# Altium schematic symbol library ST.SchLib: 178 symbols (part 1 of 2)
Pins are listed as number, name and electrical type; pins without a type are passive.

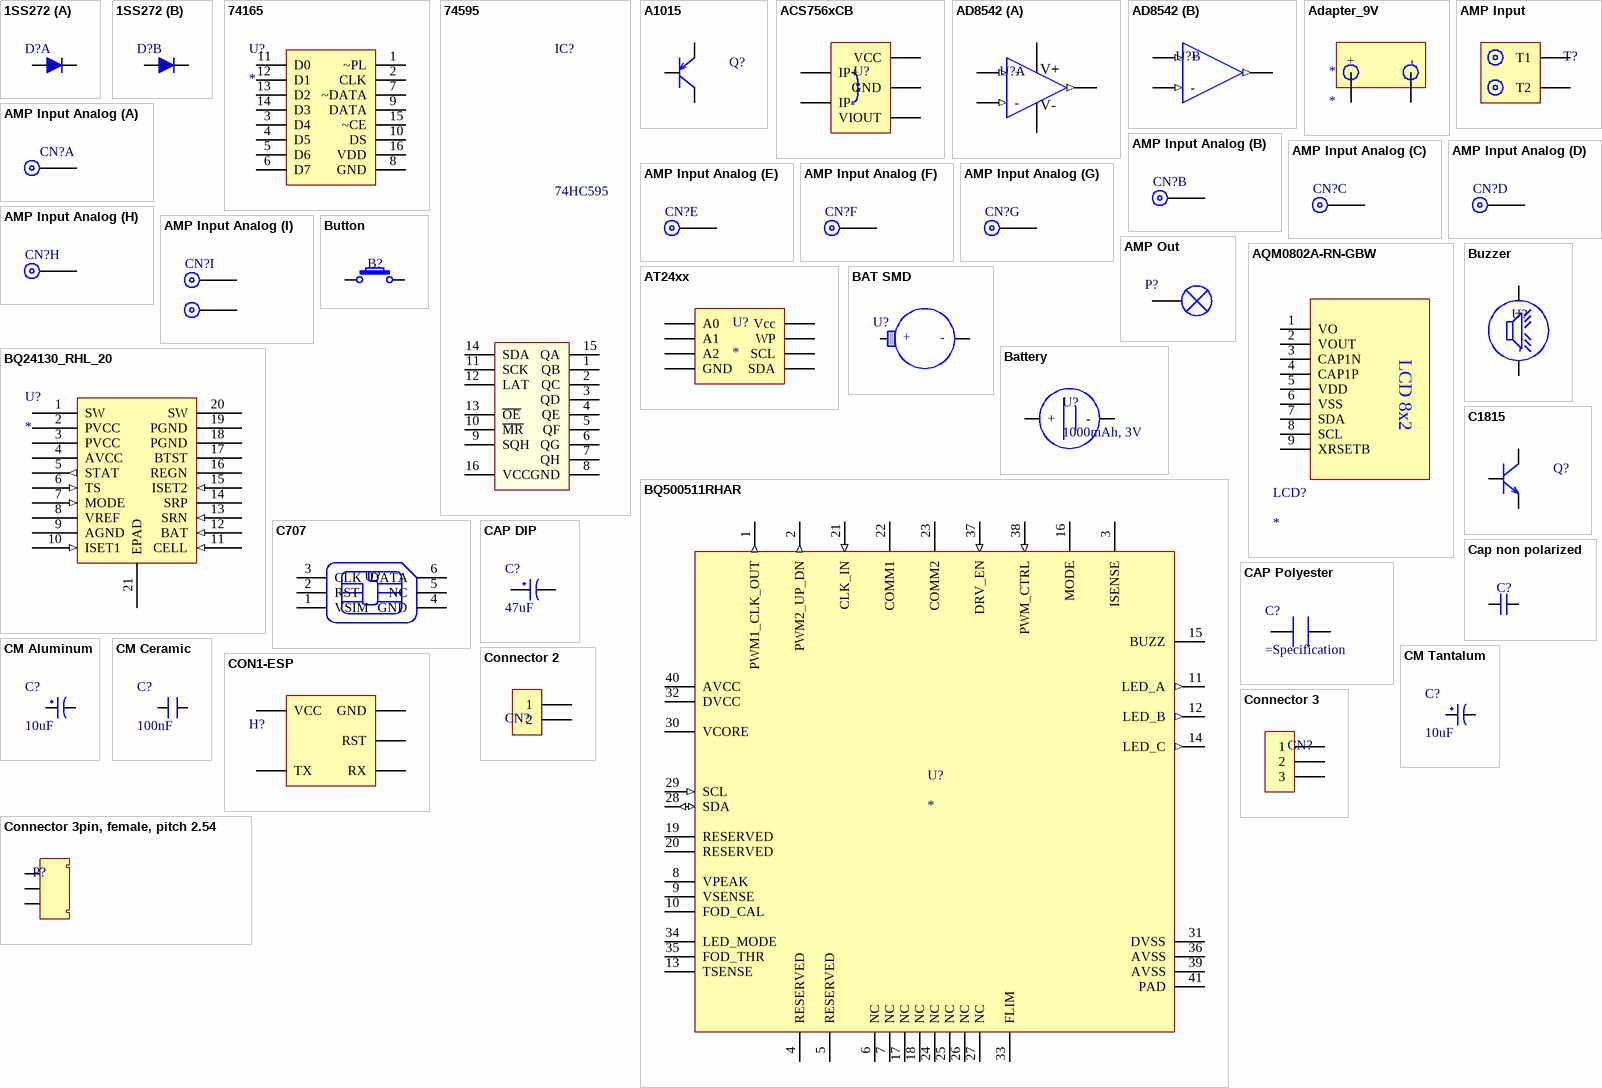
[diagram p0: symbols 1SS272 to Connector 3pin, female, pitch 2.54]

## 1SS272
designator D?  (value not drawn)
Ultra High Speed Switching Application; Manufacturer No: 1SS272; Manufacturer: Toshiba
footprint SOT143 (1SS272)
part A pins: 2, 3
part B pins: 1, 4

## 74165
designator U?
footprint SOIC16 (74HC595D)
pins: 1 ~PL, 2 CLK, 3 D4, 4 D5, 5 D6, 6 D7, 7 ~DATA, 8 GND (power), 9 DATA, 10 DS, 11 D0, 12 D1, 13 D2, 14 D3, 15 ~CE, 16 VDD (power)

## 74595
designator IC?, comment 74HC595
8 Bit Serial input - Parallel Output; Value: 74HC595
footprint SOIC16 (74HC595D)
pins: 1 QB, 2 QC, 3 QD, 4 QE, 5 QF, 6 QG, 7 QH, 8 GND, 9 SQH "OUTPUT", 10 ~{MR} "OUTPUT", 11 SCK "OUTPUT", 12 LAT "OUTPUT", 13 ~{OE} "OUTPUT", 14 SDA "OUTPUT", 15 QA, 16 VCC

## A1015
designator Q?  (value not drawn)
PNP SMD Transistor; Manufacturer No: 2SA1015LT1; Manufacturer: Toshiba; Value: A1015; Specification: A1015
footprint SOT-23 (2N7002KT1G)
pins: 1 B, 2 E, 3 C

## ACS756xCB
designator U?  (value not drawn)
Hall Effect, Open Loop; Manufacturer: Allegro; Specification: Current - Sensing 100A; Manufacturer No: ACS756xCB
footprint ACS756xCB
pins: 1 VCC, 2 GND, 3 VIOUT, 4 IP+, 5 IP-

## AD8542
designator U?  (value not drawn)
CMOS Rail-to-Rail General-Purpose Amplifiers; Manufacturer No: AD8542ARZ; Manufacturer: Analog Devices; Specification: Voltage range 2.7-5.5V, wide bandwidth 1MHz
footprint SOIC8
part A pins: 1 OUT (out), 2 - (in), 3 + (in), 4 V- (power), 8 V+ (power)
part B pins: 5 + (in), 6 - (in), 7 OUT (out)

## Adapter_9V
designator *
footprint Adpater_9V
pins: 1 +, 2 -

## AMP Input
designator T?  (value not drawn)
footprint AMP INPUT
pins: T1, T2

## AMP Input Analog
designator CN?  (value not drawn)
footprint TQFP44_MC
part A pins: 1
part B pins: 2
part C pins: 3
part D pins: 4
part E pins: 5
part F pins: 6
part G pins: 7
part H pins: 8
part I pins: 9, 10

## AMP Out
designator P?  (value not drawn)
footprint AMP OUT
pins: 1

## AQM0802A-RN-GBW
designator LCD?
Manufacturer No: AQM0802A-RN-GBW; Specification: 3V3, I2C inerface
footprint AQM0802A-RN-GBW
pins: 1 VO (power), 2 VOUT (power), 3 CAP1N (power), 4 CAP1P (power), 5 VDD (power), 6 VSS (power), 7 SDA (power), 8 SCL (power), 9 XRSETB (power)
text: LCD 8x2

## AT24xx
designator U?
EEPROM; Manufacturer No: AT24C512C; Manufacturer: Atmel; Specification: I2C-Compatible (2-wire) Serial EEPROM
footprint SOIC8
pins: 1 A0, 2 A1, 3 A2, 4 GND, 5 SDA, 6 SCL, 7 WP, 8 Vcc

## BAT SMD
designator U?  (value not drawn)
Manufacturer No: CR1220-Holder; Manufacturer: China; Specification: Coin, 12.0mm
footprint BAT SMD
pins: 1, 2
text: +; -

## Battery
designator U?, comment 1000mAh, 3V
3V; Manufacturer No: CR-2477/HF1K; Manufacturer: Panasonic; Specification: 1000mAh, 3V
footprint CR2477
pins: 1 +, 2 -

## BQ24130_RHL_20
designator U?
BATTERY CHARGE MANAGEMENT; Manufacturer: Texas Instruments; GENERIC_PART_NUMBER: BQ24130; INDUSTRY_STD_PKG_TYPE: QFN; PIN_COUNT: 20; PACKAGE_DESIGNATOR: RHL; Datasheet URL: http://www.ti.com/lit/gpn/BQ24130; FAMILY_NAME: BATTERY CHARGE MANAGEMENT; RefDes: RefDes; Type: DEV; Value: Value
footprint RHL20_2P05X3P05
pins: 1 SW (power), 2 PVCC (power), 3 PVCC (power), 4 AVCC (power), 5 STAT (out), 6 TS (in), 7 MODE (in), 8 VREF (power), 9 AGND (power), 10 ISET1 (in), 11 CELL (in), 12 BAT (in), 13 SRN (in), 14 SRP, 15 ISET2 (in), 16 REGN (power), 17 BTST (power), 18 PGND (power), 19 PGND (power), 20 SW (power), 21 EPAD

## BQ500511RHAR
designator U?
Imported; PartNumber: BQ500511RHAR; Alternate PartNumber: BQ500511RHAT; Manufacturer: Texas Instruments; CompType: IC; PIN_COUNT: 41; Application_BuildNumber: *; PackageReference: RHA0040A; MountType: SMT; RoHS: Y; RefDes: RefDes; Type: DEV; Value: Value
footprint RHA0040A
pins: 1 PWM1_CLK_OUT (out), 2 PWM2_UP_DN (out), 3 ISENSE, 4 RESERVED, 5 RESERVED, 6 NC, 7 NC, 8 VPEAK, 9 VSENSE, 10 FOD_CAL, 11 LED_A (out), 12 LED_B (out), 13 TSENSE, 14 LED_C (out), 15 BUZZ, 16 MODE, 17 NC, 18 NC, 19 RESERVED, 20 RESERVED, 21 CLK_IN (in), 22 COMM1, 23 COMM2, 24 NC, 25 NC, 26 NC, 27 NC, 28 SDA (io), 29 SCL (in), 30 VCORE, 31 DVSS (power), 32 DVCC (power), 33 FLIM, 34 LED_MODE, 35 FOD_THR, 36 AVSS (power), 37 DRV_EN (in), 38 PWM_CTRL (in), 39 AVSS (power), 40 AVCC (power), 41 PAD (power)

## Button
designator B?  (value not drawn)
Push Button
footprint SMD(2)
footprint Push Button SMD
footprint SW4 (SW button 4pin, 250 x250 mil)
footprint Button Tactile Switch
pins: 1, 2

## Buzzer
designator U?  (value not drawn)
Buzzer; Manufacturer No: SMD_BUZZER_9633; Manufacturer: OEM; Specification: 2-4V, 85dB
footprint Buzzer
footprint Buzzer Big
footprint BUZZER SMD
pins: 1 +, 2 -

## C707
designator U?, comment C707 10M006  (value not drawn)
SIM Card Holder; Manufacturer: Amphenol-Tuchel Electronics; Manufacturer No: C707 10M006; Specification: SIM Card holder
footprint SIM Card C707
pins: 1 VSIM, 2 RST, 3 CLK, 4 GND, 5 NC, 6 DATA

## C1815
designator Q?  (value not drawn)
NPN SMD Transistor; Manufacturer No: 2SC1815-HF; Manufacturer: Toshiba; Value: C1815; Specification: C1815
footprint SOT-23 (2N7002KT1G)
footprint TO-92 2.54 triangle
pins: 1 B, 2 E, 3 C

## CAP DIP
designator C?, comment 47uF
DIP Electrolytic Capacitors; Manufacturer No: 47uF/35V (JWCO); Manufacturer: JWCO; Voltage: 35V; Tolerance: 20%; Capacitance: 47uF; Specification: ="Capacitance"+" "+"Voltage"+" " +"Tolerance"
footprint CAPACITOR 16mm
footprint CAPACITOR 10x17x5
footprint Capacitor 6.3 (Pitch 2.5mm)
footprint Capacitor 5x7x2 (Pitch 2)
footprint Capacitor 4x7x1.5 (1uF -> 10uF/25V)
footprint Capacitor 5x11x2
footprint CAP EC 500-1250x2000
pins: 1, 2

## Cap non polarized
designator C?  (value not drawn)
footprint CAP CERAMIC
footprint CAP Polyester Film
pins: 1, 2

## CAP Polyester
designator C?
DIP Electrolytic Capacitors; Manufacturer No: 1uF/400V; Capacitance: 1uF; Voltage: 400V; Tolerance: 20%; Specification: ="Capacitance"+" "+"Voltage"
footprint CAP 400V POLY
pins: 1, 2

## CM Aluminum
designator C?, comment 10uF
SMD Aluminum Capacitor; Manufacturer No: EEE-HA1C100P; Manufacturer: Panasonic; Voltage: 16V; Tolerance: 20%; Capacitance: 10uF; Specification: ="Capacitance"+" "+"Voltage"+" " +"Tolerance"
footprint CAP AL SIZE B
footprint Capacitor AL Size A
footprint Capacitor AL Size C
footprint CAP AL SIZE D
footprint Capacitor AL Size D8
footprint Capacitor Al Size E
footprint CAP AL SIZE G (Aluminum Electrolytic Capacitor, Body 10.30x10.30x10.50mm)
footprint CAP AL SIZE F
pins: 1, 2

## CM Ceramic
designator C?, comment 100nF
SMD Ceramic  Capacitor; Manufacturer No: C0805KRX7R9BB104; Manufacturer: Yageo; Voltage: 50V; Tolerance: 10%; Capacitance: 100nF; Specification: ="Capacitance"+" "+"Voltage"+" " +"Tolerance"
footprint CM 0805
footprint CM 0603
footprint CM 1206
footprint CM 1210
pins: 1, 2

## CM Tantalum
designator C?, comment 10uF
SMD Tantalum Capacitor; Manufacturer No: TAJE106K035RNJ; Manufacturer: AVX; Voltage: 35V; Tolerance: 10%; Capacitance: 10uF; Specification: ="Capacitance"+" "+"Voltage"+" " +"Tolerance"
footprint CAP TANTALUM 3216
footprint CAP TANTALUM 7343
pins: 1, 2

## CON1-ESP
designator H?  (value not drawn)
footprint CON1-ESP
pins: 1 VCC, 2 GND, 14 RST, 15 TX, 16 RX

## Connector 2
designator CN?, comment SM02B-SRSS-TB  (value not drawn)
Pitch 1mm Side entry type; Manufacturer: JST; Specification: 1.0A, 50V; Manufacturer No: SM02B-SRSS-TB
footprint SM02B-SRSS-TB
pins: 1, 2

## Connector 3
designator CN?, comment SM03B-SRSS-TB  (value not drawn)
Pitch 1mm Side entry type; Manufacturer: JST; Specification: 1.0A, 50V; Manufacturer No: SM03B-SRSS-TB
footprint SM03B-SRSS-TB
pins: 1, 2, 3

## Connector 3pin, female, pitch 2.54
designator P?  (value not drawn)
footprint B3B-XH-A (Pitch 2.54)
pins: 1, 2, 3

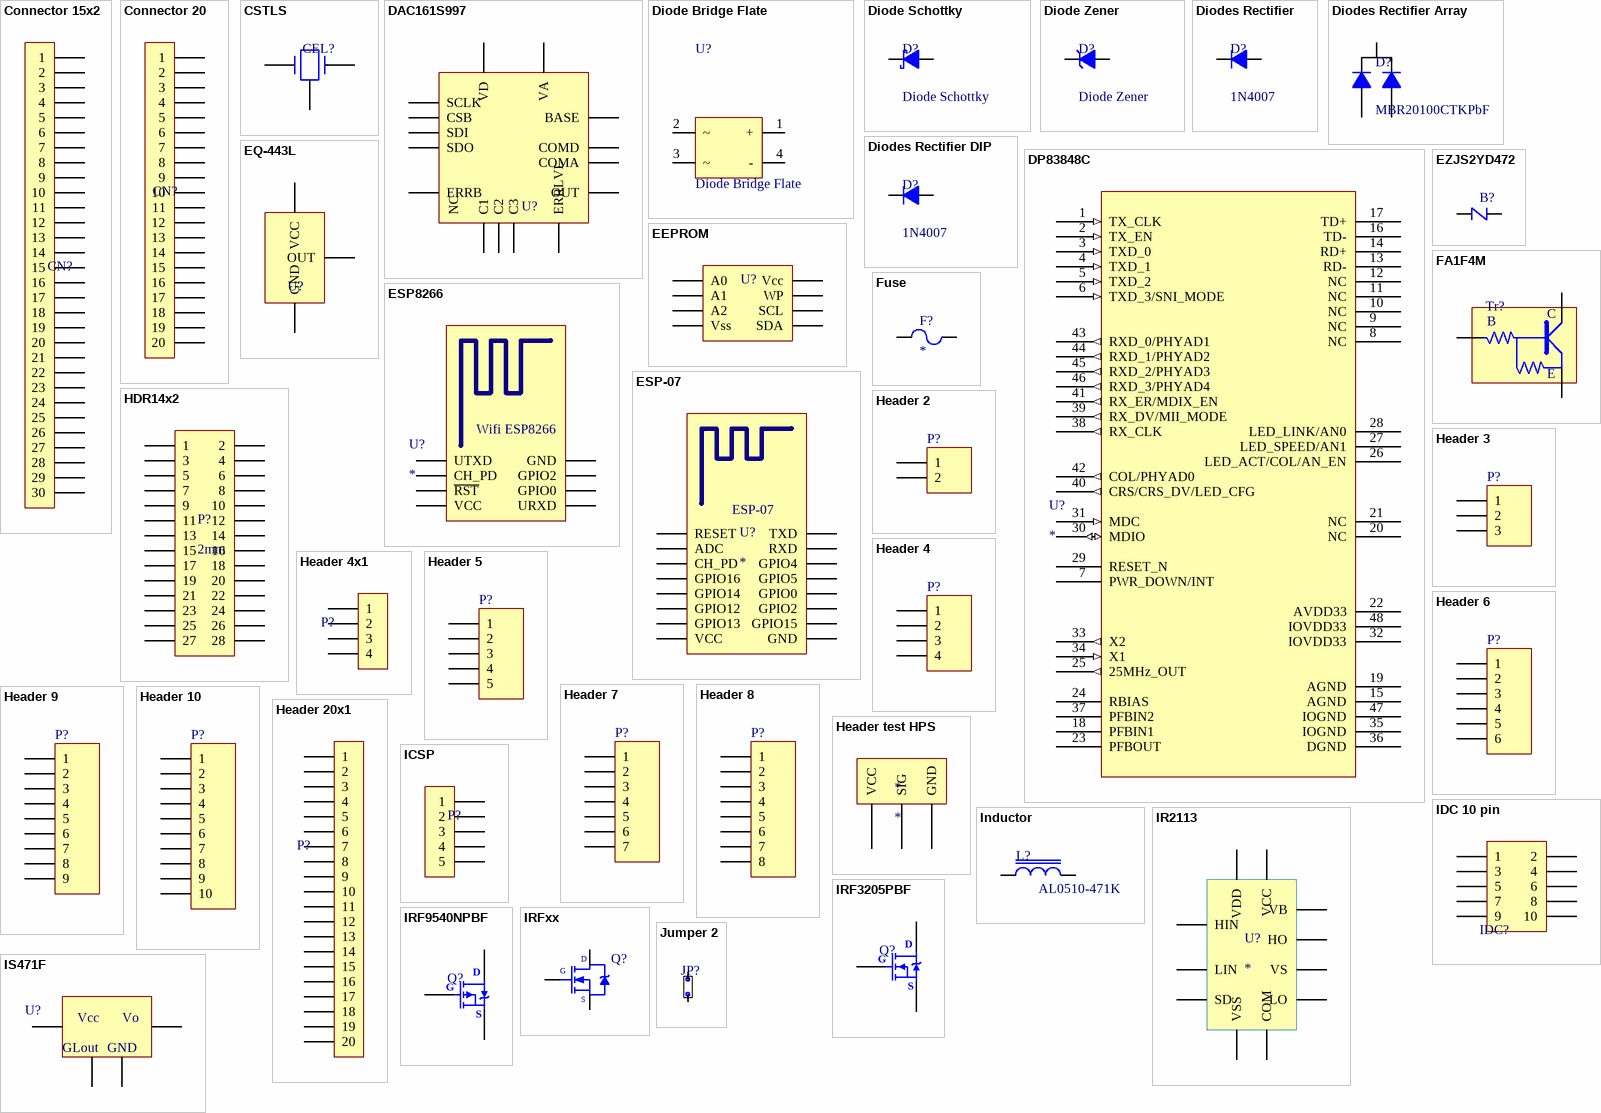
[diagram p1: symbols Connector 15x2 to Jumper 2]

## Connector 15x2
designator CN?, comment 30P9.0-JMCS-G-B-TF  (value not drawn)
Pitch 0.5mm Top entry type; Manufacturer: JST; Specification: 0.5A, 50V; Manufacturer No: 30P9.0-JMCS-G-B-TF
footprint 30P9.0-JMCS-G-B-TF
pins: 1, 2, 3, 4, 5, 6, 7, 8, 9, 10, 11, 12, 13, 14, 15, 16, 17, 18, 19, 20, 21, 22, 23, 24, 25, 26, 27, 28, 29, 30

## Connector 20
designator CN?, comment SM20B-SRSS-TB  (value not drawn)
Pitch 1mm Side entry type; Manufacturer: JST; Specification: 1.0A, 50V; Manufacturer No: SM20B-SRSS-TB
footprint SM20B-SRSS-TB
pins: 1, 2, 3, 4, 5, 6, 7, 8, 9, 10, 11, 12, 13, 14, 15, 16, 17, 18, 19, 20

## CSTLS
designator CEL?  (value not drawn)
Manufacturer No: CSTLS4M00G53-B0; Manufacturer: Mutara; Specification: 4 MHz
footprint CSTLS_G
pins: 1, 2, 3

## DAC161S997
designator U?  (value not drawn)
16-Bit SPI-Programmable DAC for 4-20 mA Loops; Manufacturer: Texas Instruments; Specification: 16-bit DAC, 4-20mA Loops; Manufacturer No: DAC161S997
footprint QFN16
pins: 1 COMA, 2 COMD, 3 VD, 4 SCLK, 5 SDI, 6 CSB, 7 ERRB, 8 SDO, 9 OUT, 10 ERRLVL, 11 NC, 12 C3, 13 C2, 14 C1, 15 VA, 16 BASE

## Diode Bridge Flate
designator U?
Diode Bridge; Manufacturer No: DB107S; Manufacturer: China; Specification: 1A/1000V
footprint Diode bridge SMD (DB107S)
footprint DIODE BRIDGE(FLAT) BIG
pins: 1 +, 2 ~, 3 ~, 4 -

## Diode Schottky
designator D?
Published: 8-Jun-2000; LatestRevisionDate: 17-Jul-2002; LatestRevisionNote: Re-released for DXP Platform.; PackageReference: DIODE-0.7; Publisher: Altium Limited
footprint DO-214AA (SODFL, 2-Leads, Body 3.63x5.34mm)
footprint SOD-123
footprint SOD-523
footprint DO-214AC (SODFL, 2-Leads, Body 2.69x5.03mm, IPC Medium Density)
footprint DO-214AB (Molded Diode, 2-Leads, Body 6.85x5.90mm)
pins: 1 K, 2 A

## Diode Zener
designator D?
Zener Voltage Regulators; Manufacturer No: MMSZ5222BT1G; Manufacturer: ON Semiconductor; Specification: 500 mW SOD−123 Surface Mount
footprint SOD-123
footprint Mini2-F3-B (SODFL, 2-Leads, Body 1.60x3.50mm, IPC Medium Density)
pins: 1 K, 2 A

## Diodes Rectifier
designator D?, comment 1N4007
Rectifier Diodes; Manufacturer: SYC; Specification: RMS Reverse Voltage 700V, Max Current 1A; Manufacturer No: 1N4007
footprint DO-214AC (SODFL, 2-Leads, Body 2.69x5.03mm, IPC Medium Density)
footprint SOD-323 (SODFL, 2-Leads, Body 1.35x2.70mm, IPC Medium Density)
footprint SOD-123
footprint TO-220AB-DIODE (MBR20100)
pins: 1 K, 2 A

## Diodes Rectifier Array
designator D?, comment MBR20100CTKPbF
Rectifier Diodes Array; Manufacturer: IR; Specification: 100V-20A; Manufacturer No: MBR20100CTKPbF
footprint TO-220AB
pins: 1 A, 2 K, 3 A

## Diodes Rectifier DIP
designator D?, comment 1N4007
Rectifier Diodes; Manufacturer: SYC; Specification: RMS Reverse Voltage 700V, Max Current 1A; Manufacturer No: 1N4007
footprint D1AN (Diode 1A, W 100mil, L 150mil)
footprint D1A (Diode 1A, W 100mil, L 350mil)
footprint D2A (Diode 2A, W 150mil, L 450mil)
footprint TO-218 Two Lead
pins: 1 K, 2 A

## DP83848C
designator U?
footprint LQFP 48pin
pins: 1 TX_CLK (in), 2 TX_EN (in), 3 TXD_0 (in), 4 TXD_1 (in), 5 TXD_2 (in), 6 TXD_3/SNI_MODE (in), 7 PWR_DOWN/INT, 8 NC, 9 NC, 10 NC, 11 NC, 12 NC, 13 RD-, 14 RD+, 15 AGND, 16 TD-, 17 TD+, 18 PFBIN1, 19 AGND, 20 NC, 21 NC, 22 AVDD33, 23 PFBOUT, 24 RBIAS, 25 25MHz_OUT (out), 26 LED_ACT/COL/AN_EN, 27 LED_SPEED/AN1, 28 LED_LINK/AN0, 29 RESET_N, 30 MDIO (io), 31 MDC (in), 32 IOVDD33, 33 X2 (out), 34 X1 (in), 35 IOGND, 36 DGND, 37 PFBIN2, 38 RX_CLK (out), 39 RX_DV/MII_MODE (out), 40 CRS/CRS_DV/LED_CFG (out), 41 RX_ER/MDIX_EN (out), 42 COL/PHYAD0 (out), 43 RXD_0/PHYAD1 (out), 44 RXD_1/PHYAD2 (out), 45 RXD_2/PHYAD3 (out), 46 RXD_3/PHYAD4 (out), 47 IOGND, 48 IOVDD33

## EEPROM
designator U?  (value not drawn)
footprint SOIC8
pins: 1 A0, 2 A1, 3 A2, 4 Vss, 5 SDA, 6 SCL, 7 WP, 8 Vcc

## EQ-443L
designator U?, comment EQ-433L  (value not drawn)
Hybrid Linear Hall Effect Ics; Manufacturer: AKM; Specification: Voltage range 3-5.5; Manufacturer No: EQ-433L
footprint SOT23127P600-8N
pins: 1 VCC, 2 GND, 3 OUT

## ESP8266
designator U?
footprint 7SEGQ-N (DIP 12 Leads; Body 32x 15 mm; Pitch 0.5 mm)
footprint ESP8266
pins: 1 UTXD, 2 CH_PD, 3 ~{RST}, 4 VCC, 5 URXD, 6 GPIO0, 7 GPIO2, 8 GND
text: Wifi ESP8266

## ESP-07
designator U?
footprint ESP-07
footprint ESP-07 V2
pins: 1 RESET, 2 ADC, 3 CH_PD, 4 GPIO16, 5 GPIO14, 6 GPIO12, 7 GPIO13, 8 VCC, 9 GND, 10 GPIO15, 11 GPIO2, 12 GPIO0, 13 GPIO5, 14 GPIO4, 15 RXD, 16 TXD

## EZJS2YD472
designator B?  (value not drawn)
Multilayer Varistor for ESD pulse; Manufacturer No: EZJS2YD472; Manufacturer: Panasonic; Specification: Max. Allowable Voltage 30V
pins: 1, 2

## FA1F4M
designator Tr?
FA1F4M; Value: R1/4W - 1K
footprint FA1F4M
pins: 1 E, 2 B, 3 C

## Fuse
designator F?
Vendor: *
footprint SMD-2812 (PTC Resettable Fuses)
pins: 1, 2

## HDR14x2
designator P?, comment 2mm
Female Pin Header, Double row; Manufacturer No: 2mm-40x2-FH; Pitch: 2mm
footprint HDR14x2 (Pitch 2mm Double row)
pins: 1, 2, 3, 4, 5, 6, 7, 8, 9, 10, 11, 12, 13, 14, 15, 16, 17, 18, 19, 20, 21, 22, 23, 24, 25, 26, 27, 28

## Header 2
designator P?
Header, 2-Pin; LatestRevisionDate: 17-Jul-2002; LatestRevisionNote: Re-released for DXP Platform.; Publisher: Altium Limited
footprint HDR1X2 (Connector; Header; 2 Position)
pins: 1, 2

## Header 3
designator P?
Header, 3-Pin; LatestRevisionDate: 17-Jul-2002; LatestRevisionNote: Re-released for DXP Platform.; Publisher: Altium Limited
footprint HDR1X3 (Connector; Header; 3 Position)
pins: 1, 2, 3

## Header 4
designator P?
Header, 4-Pin; LatestRevisionDate: 17-Jul-2002; LatestRevisionNote: Re-released for DXP Platform.; Publisher: Altium Limited
footprint HDR1X4 (Connector; Header; 4 Position)
pins: 1, 2, 3, 4

## Header 4x1
designator P?  (value not drawn)
footprint HDR 4x1 2mm (2mm)
pins: 1, 2, 3, 4

## Header 5
designator P?
Header, 5-Pin; LatestRevisionDate: 17-Jul-2002; LatestRevisionNote: Re-released for DXP Platform.; Publisher: Altium Limited
footprint HDR1X5 (Connector; Header; 5 Position)
pins: 1, 2, 3, 4, 5

## Header 6
designator P?
Header, 6-Pin; LatestRevisionDate: 17-Jul-2002; LatestRevisionNote: Re-released for DXP Platform.; Publisher: Altium Limited
footprint HDR1X6 (Connector; Header; 6 Position)
pins: 1, 2, 3, 4, 5, 6

## Header 7
designator P?
Header, 7-Pin; LatestRevisionDate: 17-Jul-2002; LatestRevisionNote: Re-released for DXP Platform.; Publisher: Altium Limited
footprint HDR1X7 (Connector; Header; 7 Position)
pins: 1, 2, 3, 4, 5, 6, 7

## Header 8
designator P?
Header, 8-Pin; LatestRevisionDate: 17-Jul-2002; LatestRevisionNote: Re-released for DXP Platform.; Publisher: Altium Limited
footprint HDR1X8 (Connector; Header; 8 Position)
pins: 1, 2, 3, 4, 5, 6, 7, 8

## Header 9
designator P?
Header, 9-Pin; LatestRevisionDate: 17-Jul-2002; LatestRevisionNote: Re-released for DXP Platform.; Publisher: Altium Limited
footprint HDR1X9 (Connector; Header; 9 Position)
pins: 1, 2, 3, 4, 5, 6, 7, 8, 9

## Header 10
designator P?
Header, 10-Pin; LatestRevisionDate: 17-Jul-2002; LatestRevisionNote: Re-released for DXP Platform.; Publisher: Altium Limited
footprint HDR1X10 (Connector; Header; 10 Position)
pins: 1, 2, 3, 4, 5, 6, 7, 8, 9, 10

## Header 20x1
designator P?  (value not drawn)
footprint HDR 20x1 2mm
pins: 1, 2, 3, 4, 5, 6, 7, 8, 9, 10, 11, 12, 13, 14, 15, 16, 17, 18, 19, 20

## Header test HPS
designator *
footprint Header HPS test
pins: 1 NC hidden, 2 VCC, 3 SIG, 4 GND, 5 NC hidden

## ICSP
designator P?  (value not drawn)
Pitch 1.27
footprint ICSP 1.27mm
pins: 1, 2, 3, 4, 5

## IDC 10 pin
designator IDC?  (value not drawn)
footprint IDC 10pin Pitch 2.54
footprint IDC 10pin Pitch 2.54 Angle
pins: 1 (power), 2 (power), 3 (power), 4 (power), 5 (power), 6 (power), 7 (power), 8 (power), 9 (power), 10 (power)

## Inductor
designator L?, comment AL0510-471K
Power; Manufacturer: DEKE; Specification: 470uH, 280mA; Manufacturer No: AL0510-471K
footprint Axial 0.5
pins: 1, 2

## IR2113
designator U?
HIGH AND LOW SIDE DRIVER; Manufacturer No: IR2113S; Manufacturer: IR; Specification: Vout 10-20V
footprint SOIC16-W (SOIC, 16-Leads, Body 10.30x7.50mm, Pitch 1.27mm, IPC Medium Density)
pins: 1 LO, 2 COM, 3 VCC, 4 hidden, 5 hidden, 6 VS, 7 VB, 8 HO, 9 hidden, 10 hidden, 11 VDD, 12 HIN, 13 SD, 14 LIN, 15 VSS, 16 hidden

## IRF3205PBF
designator Q?  (value not drawn)
N-Channel MOSFET; Manufacturer: IR; Specification: 55V/2110A; Manufacturer No: IRF3205PBF
footprint TO-220AB
pins: 1 G, 2 D, 3 S

## IRF9540NPBF
designator Q?, comment IRF4435  (value not drawn)
P-Channel MOSFET; Manufacturer: IRF9540NPBF; Specification: 100V/23A; Manufacturer No: IRF4435
footprint TO-220AB
pins: 1 G, 2 D, 3 S

## IRFxx
designator Q?  (value not drawn)
MOSFET N
footprint IRF7832PbF (Only used for IRF7832)
pins: 1 G, 2 D, 3 S

## IS471F
designator U?  (value not drawn)
footprint IS471F
pins: 1 Vcc, 2 Vo, 3 GND, 4 GLout

## Jumper 2
designator JP?  (value not drawn)
2.54mm 2-Pin Shorting Jumper; Manufacturer No: JUMPER-2; Manufacturer: Taiwan; Specification: Pitch 2.54mm
footprint Jumper
pins: 1, 2

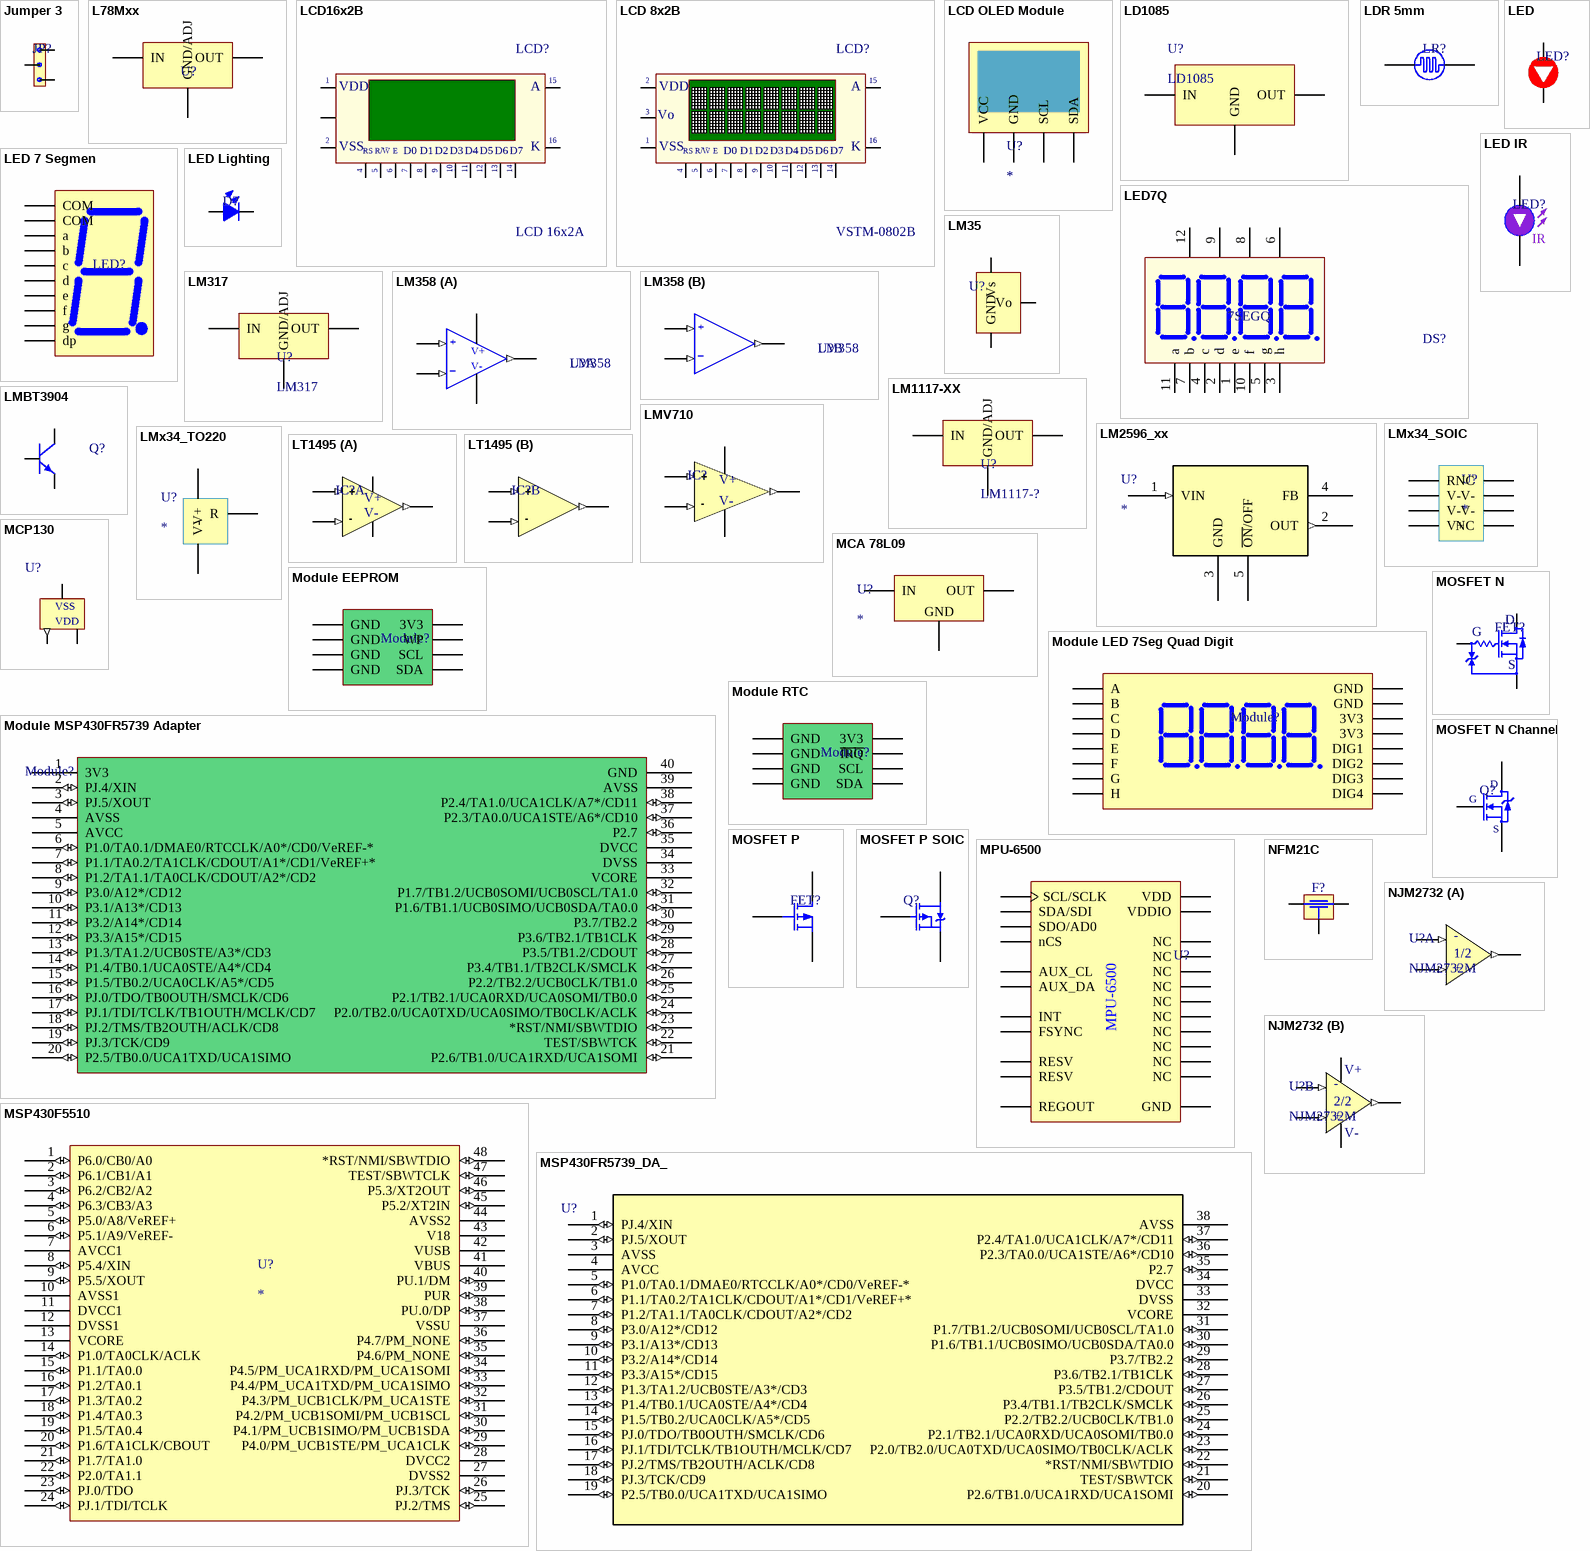
[diagram p2: symbols Jumper 3 to NJM2732]

## Jumper 3
designator JP?  (value not drawn)
footprint Jumper
pins: 1, 2, 3

## L78Mxx
designator U?  (value not drawn)
Manufacturer No: L78M05CDT-TR; Manufacturer: ST; Specification: Out 5V, 500mA
footprint DPAK
pins: 1 IN (power), 2 GND/ADJ (power), 3 OUT (power)

## LCD16x2B
designator LCD?, comment LCD 16x2A
LCD dipslay 16 char, 2 line; Manufacturer: SC1602BBWB; Value: LCD16x2A
footprint SC1602BBWB (LCD 16x2)
pins: 1 VDD, 2 VSS, 3 Vo, 4 RS, 5 R/~{W}, 6 ~{EN}, 7 D0, 8 D1, 9 D2, 10 D3, 11 D4, 12 D5, 13 D6, 14 D7, 15 A, 16 K
text: |; R/W; E

## LCD 8x2B
designator LCD?, comment VSTM-0802B
LCD dipslay 8 char, 2 line; Manufacturer: Vs-Top Electronics; Specification: LCD display 8 char, 2 line; Manufacturer No: VSTM-0802B
pins: 1 VSS, 2 VDD, 3 Vo, 4 RS, 5 R/~{W}, 6 ~{EN}, 7 D0, 8 D1, 9 D2, 10 D3, 11 D4, 12 D5, 13 D6, 14 D7, 15 A, 16 K
text: |; R/W; E

## LCD OLED Module
designator U?
Manufacturer No: LCD OLED 1.3; Manufacturer: China; Specification: I2C, 3V3 - 5V, 128x64
footprint LCD OLED 1.3
pins: 1 VCC, 2 GND, 3 SCL, 4 SDA

## LD1085
designator U?
footprint D2PAK
pins: 1 GND, 2 OUT, 3 IN

## LDR 5mm
designator LR?  (value not drawn)
footprint LDR
pins: 1, 2

## LED
designator LED?
LED; Manufacturer No: HT204SURD; Manufacturer: Harvatek; Color: RED; Wavelength: 630nm; Brightness: 30-200 mcd; Size: 3mm; Specification: ="Color"+" " +"Wavelength"+" "+"Brightness"
footprint LED 3MM (LED 2 PIN, 3ly Only colour)
footprint LED-5mm RED (LED 2 PIN, 5 ly , Only colour, pin to pin 110mil)
footprint LED 0603
footprint LED 0805
footprint LED 1206
pins: 1, 2

## LED7Q
designator DS?, comment 7SEGQ
Four 7 Seg Dipslay; Value: LED 7Q SEG
footprint 7SEG 4DIG MODULE
pins: 1 e, 2 d, 3 h, 4 c, 5 g, 6 V4, 7 b, 8 V3, 9 V2, 10 f, 11 a, 12 V1

## LED 7 Segmen
designator LED?  (value not drawn)
LED 7 Segmen; Manufacturer: Kingbright; Manufacturer No: ACSA03-41SRWA-F01; Specification: Red, 0.3 inch digit height
footprint LED7SEG SMD
pins: 1 e, 2 d, 3 COM, 4 c, 5 dp, 6 b, 7 a, 8 COM, 9 f, 10 g

## LED IR
designator LED?  (value not drawn)
LED - Infrared 940nm; Manufacturer: Vishay Semiconductors; Manufacturer No: TSAL6200; Specification: IR LED, 940nm, If=100mA
footprint LED-5mm RED-IR (LED 2 PIN, 5 ly , Only colour, pin to pin 110mil)
pins: 1 A, 2 K
text: IR

## LED Lighting
designator D?
LED Lighting
footprint LED 3MM (LED 2 PIN, 3ly Only colour)
pins: 1 A, 2 K

## LM35
designator U?  (value not drawn)
Manufacturer No: LM35CAZ; Manufacturer: Texas Instruments; Specification: Power supply 4-30V, 10mV/*C
footprint TO-92 2.54 triangle LM35
pins: 1 Vs, 2 Vo, 3 GND

## LM317
designator U?
Terminal Adjustable Regulator; Manufacturer: Texas Instruments; Specification: 1.5A Adjustable Positive Voltage Regulator; Manufacturer No: LM317
footprint TO-220AB
pins: 1 GND/ADJ (power), 2 OUT (power), 3 IN (power)

## LM358
designator U?
Low-Power Dual Operational Amplifier; Manufacturer: TI; Specification: Dual Operational Amplifiers; Manufacturer No: LM358
footprint SOIC8
part A pins: 1 OUT (out), 2 IN- (in), 3 IN+ (in), 4 -V, 8 +V
part B pins: 5 IN+ (in), 6 IN- (in), 7 OUT (out)
part A text: +; V+; _; V-
part B text: +; _

## LM1117-XX
designator U?, comment LM1117-?
800mA Low-Dropout Linear Regulator; Manufacturer: Texas Instruments; Manufacturer No: LM1117IMP-3.3/NOPB; Specification: Vin 15Vmax, Iout 800mA; Datasheet: http://www.ti.com/product/LM1117-N/description
footprint SOT-223 (SOT223, 4-Leads, Body 6.50x7.00mm (avg), Pitch 2.30mm, IPC Medium Density)
footprint DPAK
pins: 1 GND/ADJ (power), 2 OUT (power), 3 IN (power)

## LM2596_xx
designator U?
Imported; PartNumber: LM2596S-12; base_pn: LM259X; CompType: Switcher; Symbol: NameLM2596S-12; Vendor: NationalSemiconductor; Type: DEV; Version: 05/02/2007; RefDes: RefDes; Value: Value
footprint DPAK170P1524X483-6N (D2-PAK, 6-Pads, Body 7.93x8.69mm (max), IPC Medium Density)
pins: 1 VIN (in), 2 OUT (out), 3 GND, 4 FB, 5 ~{ON}/OFF, 6 TAB hidden to GND

## LMBT3904
designator Q?, comment C1815  (value not drawn)
NPN SMD Transistor; Manufacturer No: LMBT3904LT1G; Manufacturer: LRC; Specification: Ic = 200mA; Value: C1815
footprint SOT-23 (2N7002KT1G)
pins: 1 B, 2 E, 3 C

## LMV710
designator IC?, comment LMV710M5/NOPB  (value not drawn)
Manufacturer: Texas Instruments; Specification: Low Power, RRIO Operational Amplifiers; Manufacturer No: LMV710M5/NOPB
footprint SOT23 5 Lead (SOT23, 5-Leads, Body 2.90x2.80mm, Pitch 0.95mm, IPC Medium Density)
pins: 1 (out), 2 V- (power), 3 + (in), 4 - (in), 5 V+ (power)

## LMx34_SOIC
designator U?
Adjustable Current Sources; Manufactuer No: LM334; Manufacturer: Texas Instrument
footprint SOIC8
pins: 1 R, 2 V-, 3 V-, 4 V+, 5 NC, 6 V-, 7 V-, 8 NC

## LMx34_TO220
designator U?
Adjustable Current Sources; Manufactuer No: LM334; Manufacturer: Texas Instrument
footprint TO-92 2.54 triangle
pins: 1 V-, 2 V+, 3 R

## LT1495
designator IC?, comment LT1495IS8  (value not drawn)
Low Power, RRIO Operational Amplifiers, Dual opamp; Manufacturer: Linear Technology; Manufacturer No: LT1495IS8; Specification: Low Power, RRIO Operational Amplifiers, Dual opamp
footprint SOIC8
part A pins: 1 (out), 2 - (in), 3 + (in), 4 V- (power), 8 V+ (power)
part B pins: 5 + (in), 6 - (in), 7 (out)

## MCA 78L09
designator U?
pins: 1 OUT, 2 GND, 3 IN

## MCP130
designator U?  (value not drawn)
footprint MCP130 SOT23 (SOT23, 3-Leads, Body 2.90x2.45mm, Pitch 0.95mm, IPC Medium Density)
pins: 1 VSS, 2 RST (out), 3 VDD

## Module EEPROM
designator Module?  (value not drawn)
footprint MODULE EEPROM
pins: 1 GND, 2 GND, 3 GND, 4 GND, 5 SDA, 6 SCL, 7 WP, 8 3V3

## Module LED 7Seg Quad Digit
designator Module?  (value not drawn)
footprint 7SEG 4DIG MODULE
pins: 1 A, 2 B, 3 C, 4 D, 5 E, 6 F, 6 3V3, 7 G, 7 3V3, 8 H, 8 GND, 9 DIG4, 9 GND, 10 DIG3, 11 DIG2, 12 DIG1

## Module MSP430FR5739 Adapter
designator Module?  (value not drawn)
footprint MODULE MSP430FR5739
pins: 1 3V3 (power), 2 PJ.4/XIN (io), 3 PJ.5/XOUT (io), 4 AVSS (power), 5 AVCC (power), 6 P1.0/TA0.1/DMAE0/RTCCLK/A0*/CD0/VeREF-* (io), 7 P1.1/TA0.2/TA1CLK/CDOUT/A1*/CD1/VeREF+* (io), 8 P1.2/TA1.1/TA0CLK/CDOUT/A2*/CD2 (io), 9 P3.0/A12*/CD12 (io), 10 P3.1/A13*/CD13 (io), 11 P3.2/A14*/CD14 (io), 12 P3.3/A15*/CD15 (io), 13 P1.3/TA1.2/UCB0STE/A3*/CD3 (io), 14 P1.4/TB0.1/UCA0STE/A4*/CD4 (io), 15 P1.5/TB0.2/UCA0CLK/A5*/CD5 (io), 16 PJ.0/TDO/TB0OUTH/SMCLK/CD6 (io), 17 PJ.1/TDI/TCLK/TB1OUTH/MCLK/CD7 (io), 18 PJ.2/TMS/TB2OUTH/ACLK/CD8 (io), 19 PJ.3/TCK/CD9 (io), 20 P2.5/TB0.0/UCA1TXD/UCA1SIMO (io), 21 P2.6/TB1.0/UCA1RXD/UCA1SOMI (io), 22 TEST/SBWTCK (io), 23 *RST/NMI/SBWTDIO (io), 24 P2.0/TB2.0/UCA0TXD/UCA0SIMO/TB0CLK/ACLK (io), 25 P2.1/TB2.1/UCA0RXD/UCA0SOMI/TB0.0 (io), 26 P2.2/TB2.2/UCB0CLK/TB1.0 (io), 27 P3.4/TB1.1/TB2CLK/SMCLK (io), 28 P3.5/TB1.2/CDOUT (io), 29 P3.6/TB2.1/TB1CLK (io), 30 P3.7/TB2.2 (io), 31 P1.6/TB1.1/UCB0SIMO/UCB0SDA/TA0.0 (io), 32 P1.7/TB1.2/UCB0SOMI/UCB0SCL/TA1.0 (io), 33 VCORE (power), 34 DVSS (power), 35 DVCC (power), 36 P2.7 (io), 37 P2.3/TA0.0/UCA1STE/A6*/CD10 (io), 38 P2.4/TA1.0/UCA1CLK/A7*/CD11 (io), 39 AVSS (power), 40 GND (power)

## Module RTC
designator Module?  (value not drawn)
footprint MODULE RTC
pins: 1 GND, 2 GND, 3 GND, 4 GND, 5 SDA, 6 SCL, 7 ~{IRQ}, 8 3V3

## MOSFET N
designator FET?, comment 2SK2009  (value not drawn)
Manufacturer: Toshiba; Specification: N-Channel MOSFET; Manufacturer No: 2SK2009
footprint SOT-23 (2N7002KT1G)
pins: 1 G, 2 S, 3 D

## MOSFET N Channel
designator Q?, comment IRF3205  (value not drawn)
Manufacturer: IRF; Specification: N-Channel MOSFET; Manufacturer No: IRF3205
footprint TO-220AB
pins: 1 G, 2 D, 3 S

## MOSFET P
designator FET?  (value not drawn)
Manufacturer: IRF; Manufacturer No: IRLML6402; Specification: P-Channel MOSFET
footprint SOT-23 (2N7002KT1G)
pins: 1 G, 2 S, 3 D

## MOSFET P SOIC
designator Q?, comment IRF4435  (value not drawn)
P-Channel MOSFET; Manufacturer: IRF; Specification: 30V/8A; Manufacturer No: IRF4435
footprint SOIC MOSFET (Only used for Mosfet)
pins: 1 G, 2 D, 3 S

## MPU-6500
designator U?  (value not drawn)
Accelerometer, Gyroscope; Manufacturer: InvenSense; Specification: 6-Axis Gyro+Accel; Manufacturer No: MPU-6500
footprint QFN24
pins: 1 NC (power), 2 NC (power), 3 NC (power), 4 NC (power), 5 NC (power), 6 NC (power), 7 AUX_CL (power), 8 VDDIO (power), 9 SDO/AD0 (power), 10 REGOUT (power), 11 FSYNC (power), 12 INT (power), 13 VDD (power), 14 NC (power), 15 NC (power), 16 NC (power), 17 NC (power), 18 GND (power), 19 RESV (power), 20 RESV (power), 21 AUX_DA (power), 22 nCS (power), 23 SCL/SCLK, 24 SDA/SDI (power)

## MSP430F5510
designator U?
Imported; Manufacturer_Part_Number: msp430f5510_pt_48; GENERIC_PART_NUMBER: MSP430F5510; Vendor: Texas Instruments; PACKAGE_DESIGNATOR: PT; PIN_COUNT: 48; FAMILY_NAME: 5 Series; INDUSTRY_STD_PKG_TYPE: LQFP; Datasheet URL: http://www.ti.com/lit/gpn/MSP430F5510; Manufacturer: Texas Instruments; RefDes: RefDes; Type: DEV; Value: Value
footprint LQFP 48pin
pins: 1 P6.0/CB0/A0 (io), 2 P6.1/CB1/A1 (io), 3 P6.2/CB2/A2 (io), 4 P6.3/CB3/A3 (io), 5 P5.0/A8/VeREF+ (io), 6 P5.1/A9/VeREF- (io), 7 AVCC1 (power), 8 P5.4/XIN (io), 9 P5.5/XOUT (io), 10 AVSS1 (power), 11 DVCC1 (power), 12 DVSS1 (power), 13 VCORE (power), 14 P1.0/TA0CLK/ACLK (io), 15 P1.1/TA0.0 (io), 16 P1.2/TA0.1 (io), 17 P1.3/TA0.2 (io), 18 P1.4/TA0.3 (io), 19 P1.5/TA0.4 (io), 20 P1.6/TA1CLK/CBOUT (io), 21 P1.7/TA1.0 (io), 22 P2.0/TA1.1 (io), 23 PJ.0/TDO (io), 24 PJ.1/TDI/TCLK (io), 25 PJ.2/TMS (io), 26 PJ.3/TCK (io), 27 DVSS2 (power), 28 DVCC2 (power), 29 P4.0/PM_UCB1STE/PM_UCA1CLK (io), 30 P4.1/PM_UCB1SIMO/PM_UCB1SDA (io), 31 P4.2/PM_UCB1SOMI/PM_UCB1SCL (io), 32 P4.3/PM_UCB1CLK/PM_UCA1STE (io), 33 P4.4/PM_UCA1TXD/PM_UCA1SIMO (io), 34 P4.5/PM_UCA1RXD/PM_UCA1SOMI (io), 35 P4.6/PM_NONE (io), 36 P4.7/PM_NONE (io), 37 VSSU (power), 38 PU.0/DP (io), 39 PUR (io), 40 PU.1/DM (io), 41 VBUS (power), 42 VUSB (power), 43 V18 (power), 44 AVSS2 (power), 45 P5.2/XT2IN (io), 46 P5.3/XT2OUT (io), 47 TEST/SBWTCLK (io), 48 *RST/NMI/SBWTDIO (io)

## MSP430FR5739_DA_
designator U?  (value not drawn)
Manufacturer: Texas Instruments; Manufacturer No: msp430fr5739_da_38; GENERIC_PART_NUMBER: MSP430FR5739; PACKAGE_DESIGNATOR: DA; PIN_COUNT: 38; FAMILY_NAME: FRAM Series; INDUSTRY_STD_PKG_TYPE: TSSOP; Specification: http://www.ti.com/lit/gpn/MSP430FR5739; RefDes: RefDes; Type: DEV; Value: Value
footprint TSSOP38 (MSP430FR5739)
pins: 1 PJ.4/XIN (io), 2 PJ.5/XOUT (io), 3 AVSS (power), 4 AVCC (power), 5 P1.0/TA0.1/DMAE0/RTCCLK/A0*/CD0/VeREF-* (io), 6 P1.1/TA0.2/TA1CLK/CDOUT/A1*/CD1/VeREF+* (io), 7 P1.2/TA1.1/TA0CLK/CDOUT/A2*/CD2 (io), 8 P3.0/A12*/CD12 (io), 9 P3.1/A13*/CD13 (io), 10 P3.2/A14*/CD14 (io), 11 P3.3/A15*/CD15 (io), 12 P1.3/TA1.2/UCB0STE/A3*/CD3 (io), 13 P1.4/TB0.1/UCA0STE/A4*/CD4 (io), 14 P1.5/TB0.2/UCA0CLK/A5*/CD5 (io), 15 PJ.0/TDO/TB0OUTH/SMCLK/CD6 (io), 16 PJ.1/TDI/TCLK/TB1OUTH/MCLK/CD7 (io), 17 PJ.2/TMS/TB2OUTH/ACLK/CD8 (io), 18 PJ.3/TCK/CD9 (io), 19 P2.5/TB0.0/UCA1TXD/UCA1SIMO (io), 20 P2.6/TB1.0/UCA1RXD/UCA1SOMI (io), 21 TEST/SBWTCK (io), 22 *RST/NMI/SBWTDIO (io), 23 P2.0/TB2.0/UCA0TXD/UCA0SIMO/TB0CLK/ACLK (io), 24 P2.1/TB2.1/UCA0RXD/UCA0SOMI/TB0.0 (io), 25 P2.2/TB2.2/UCB0CLK/TB1.0 (io), 26 P3.4/TB1.1/TB2CLK/SMCLK (io), 27 P3.5/TB1.2/CDOUT (io), 28 P3.6/TB2.1/TB1CLK (io), 29 P3.7/TB2.2 (io), 30 P1.6/TB1.1/UCB0SIMO/UCB0SDA/TA0.0 (io), 31 P1.7/TB1.2/UCB0SOMI/UCB0SCL/TA1.0 (io), 32 VCORE (power), 33 DVSS (power), 34 DVCC (power), 35 P2.7 (io), 36 P2.3/TA0.0/UCA1STE/A6*/CD10 (io), 37 P2.4/TA1.0/UCA1CLK/A7*/CD11 (io), 38 AVSS (power)

## NFM21C
designator F?  (value not drawn)
EMI Suppression Filters; Manufacturer No: NFM21CC223R1H3D; Manufacturer: Murata; Specification: 50VDC, 2000mA
footprint NFM21
pins: 1 IN, 2 GND, 3 OUT

## NJM2732
designator U?, comment NJM2732M
Rail-to-Rail Input/Output Dual Operational Amplifier; Manufacturer: JRC; Manufacturer No: NJM2732M; Specification: Rail-to-Rail Input/Output Dual Operational Amplifier
footprint SOP8
part A pins: 1 (out), 2 (in), 3 (in)
part B pins: 4 V- (power), 5 (in), 6 (in), 7 (out), 8 V+ (power)
part A text: -; 1/2; +
part B text: -; 2/2; +

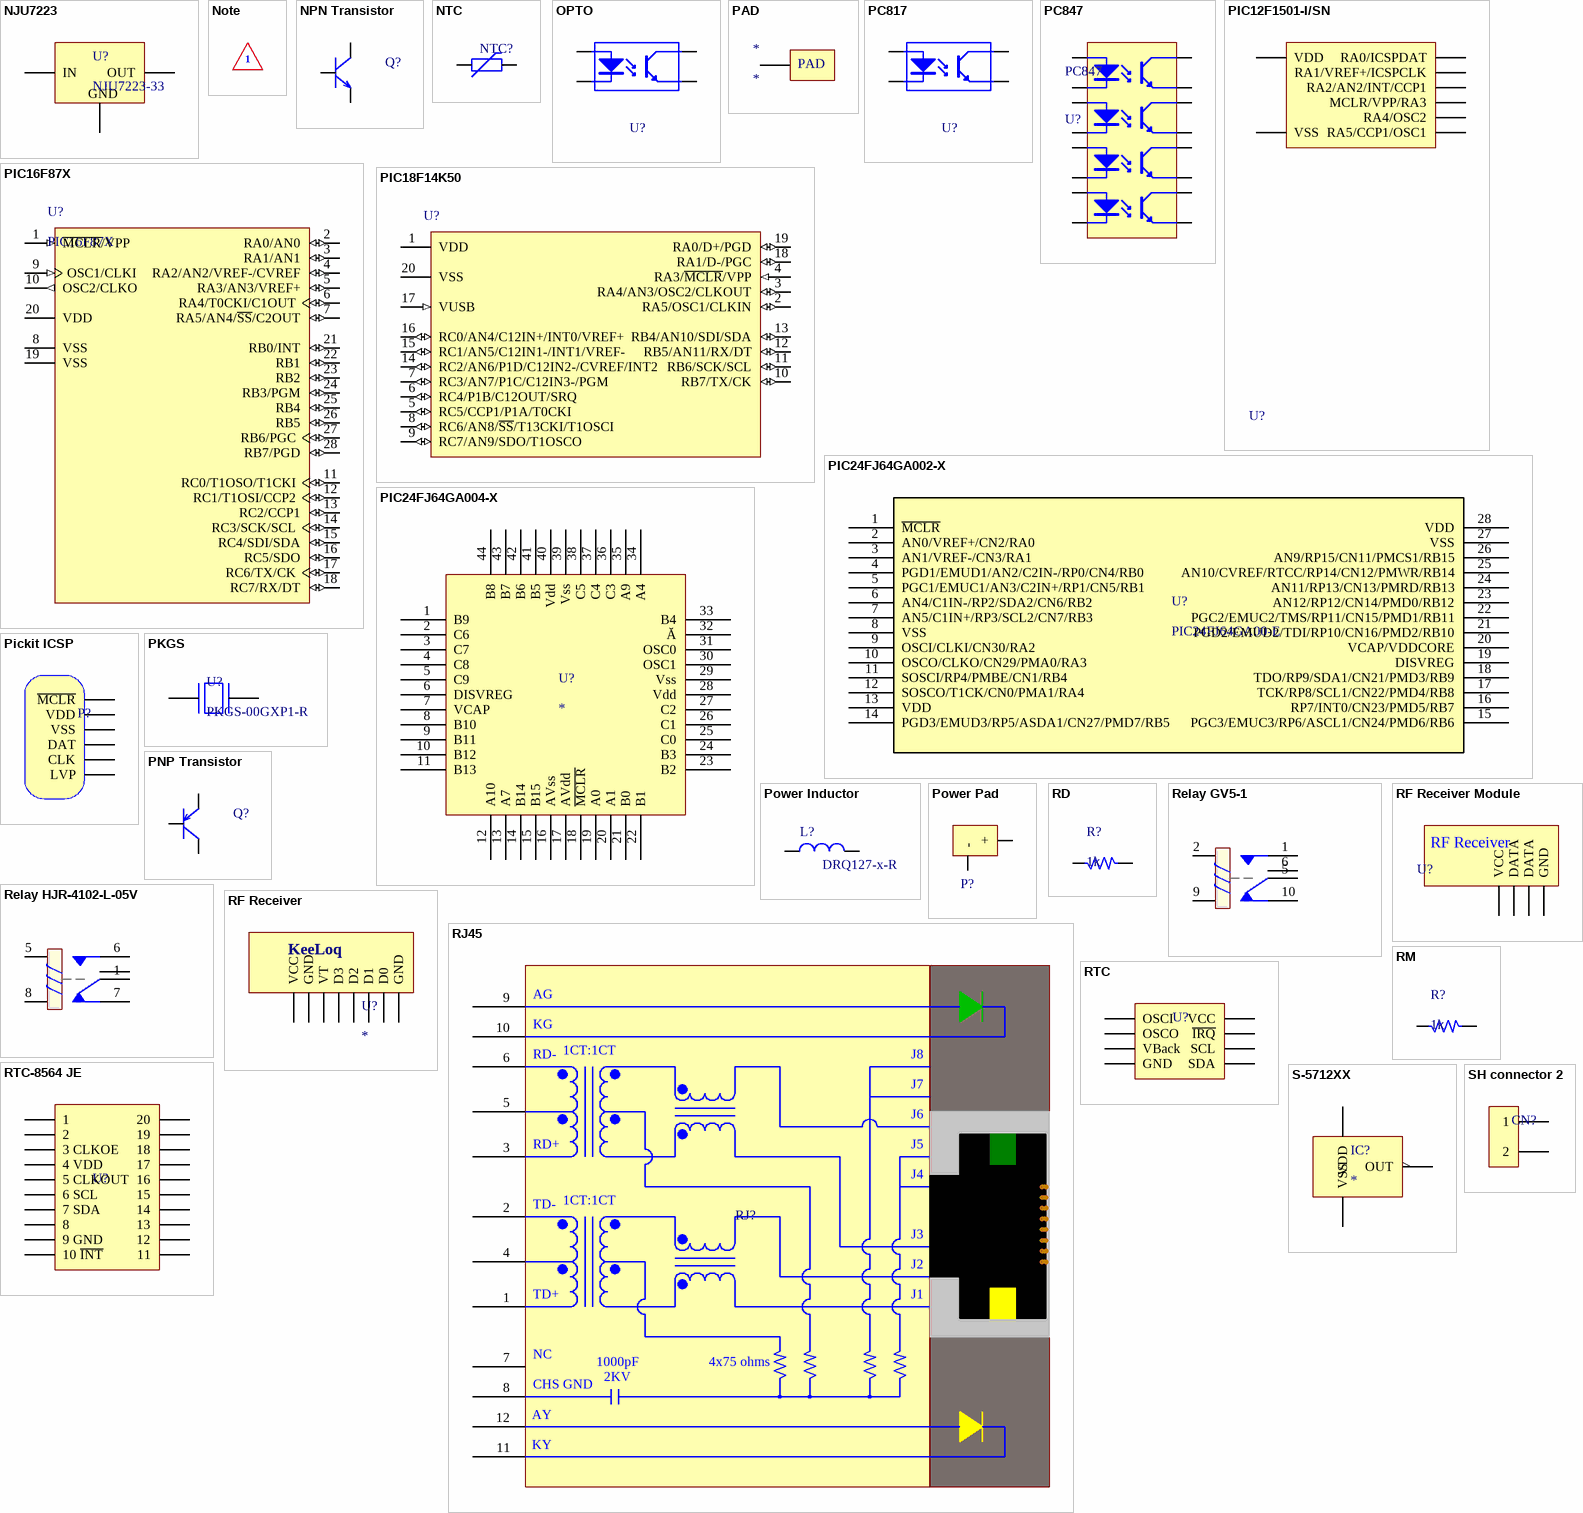
[diagram p3: symbols NJU7223 to SH connector 2]

## NJU7223
designator U?, comment NJU7223-33
500mA Low Dropout Voltage Regulator; Manufacturer: JRC; Specification: 3.3 V, 500mA; Manufacturer No: NJU7223-33
footprint TO-252-3-L1
pins: 1 OUT, 2 IN, 3 GND

## Note
designator ?  (value not drawn)  (graphical)
text: 1

## NPN Transistor
designator Q?, comment 2SC3325  (value not drawn)
NPN SMD Transistor; Manufacturer: Toshiba; Specification: Ic 200mA; Manufacturer No: 2SC3325
footprint SOT-23 (2N7002KT1G)
footprint TO-92 2.54 triangle
pins: 1 B, 2 E, 3 C

## NTC
designator NTC?  (value not drawn)
Specification: 10k
footprint HDR1X2 (Connector; Header; 2 Position)
pins: 1, 2

## OPTO
designator U?
TLP521; Value: TLP5211
footprint OPTO
pins: 1 A "Anode", 2 K "Cathode", 3 E "Emitter", 4 C "Collector"

## PAD
designator *
footprint PAD
pins: 0

## PC817
designator U?
Photocoupler 1channel; Manufacturer No: PC817; Manufacturer: Sharp; Specification: 1 channel
footprint OPTO
pins: 1 A "Anode", 2 K "Cathode", 3 E "Emitter", 4 C "Collector"

## PC847
designator U?
Single Opto; Value: PC817
footprint DIP16/W0.3 (16 PIN, W 300mil, Pin to pin 100mil)
pins: 1 "Anode", 2 "Cathode", 3 "Anode", 4 "Cathode", 5 "Anode", 6 "Cathode", 7 "Anode", 8 "Cathode", 9 "Emitter", 10 "Collector", 11 "Emitter", 12 "Collector", 13 "Emitter", 14 "Collector", 15 "Emitter", 16 "Collector"

## PIC12F1501-I/SN
designator U?  (value not drawn)
8-Pin Flash, 8-Bit Microcontrollers; Manufacturer No: PIC12F1501-I/SN; Manufacturer: Microchip; Specification: Voltage range 2.3-5.5V
footprint SOIC8
pins: 1 VDD (power), 2 RA5/CCP1/OSC1, 3 RA4/OSC2, 4 MCLR/VPP/RA3, 5 RA2/AN2/INT/CCP1, 6 RA1/VREF+/ICSPCLK, 7 RA0/ICSPDAT, 8 VSS (power)

## PIC16F87X
designator U?
ComponentAvailability: Unknown. Contact manufacturer to determine status.; Published: 11-Oct-2004; LatestRevisionDate: 29-Jan-2009; LatestRevisionNote: Sch. layout revised. 3D Model Removed.; DatasheetVersion: revB, Oct-2003; PackageVersion: revBB, Aug-2009; PackageReference: SOIC-SO28; Publisher: Altium Limited; PackageDescription: 28-Lead Plastic Small Outline (SO) - Wide 7.50mm Body [SOIC]; Supplier 1: Digi-Key; Supplier Part Number 1: PIC16F873A-I/SO-ND; Supplier 2: Farnell; Supplier Part Number 2: 1660034; Supplier 3: Farnell; Supplier Part Number 3: 9761080; Code_JEDEC: MS-013; ComponentLink1Description: Datasheet; ComponentLink1URL: http://ww1.microchip.com/downloads/en/DeviceDoc/39582b.pdf; ComponentLink2Description: Packaging Specification; ComponentLink2URL: http://www.microchip.com/stellent/groups/techpub_sg/documents/packagingspec/en012702.pdf; ComponentLink3Description: Microchip.com Home; ComponentLink3URL: http://www.microchip.com/
footprint DIP28
pins: 1 ~{MCLR}/VPP (in), 2 RA0/AN0 (io), 3 RA1/AN1 (io), 4 RA2/AN2/VREF-/CVREF (io), 5 RA3/AN3/VREF+ (io), 6 RA4/T0CKI/C1OUT (io), 7 RA5/AN4/~{SS}/C2OUT (io), 8 VSS (power), 9 OSC1/CLKI (in), 10 OSC2/CLKO (out), 11 RC0/T1OSO/T1CKI (io), 12 RC1/T1OSI/CCP2 (io), 13 RC2/CCP1 (io), 14 RC3/SCK/SCL (io), 15 RC4/SDI/SDA (io), 16 RC5/SDO (io), 17 RC6/TX/CK (io), 18 RC7/RX/DT (io), 19 VSS (power), 20 VDD (power), 21 RB0/INT (io), 22 RB1 (io), 23 RB2 (io), 24 RB3/PGM (io), 25 RB4 (io), 26 RB5 (io), 27 RB6/PGC (io), 28 RB7/PGD (io)

## PIC18F14K50
designator U?
USB Flash Microcontroller with nanoWatt XLP Technology, 20-pin PDIP, Industrial Temperature; Published: 2-Dec-2009; DatasheetVersion: revC, Mar-2009; PackageVersion: revBB, Aug-2009; PackageReference: PDIP300-P20; Publisher: Altium Limited; PackageDescription: 20-Lead Plastic Dual In-Line (P) - 300 mil Body [PDIP]; Supplier 1: Digi-Key; Supplier Part Number 1: PIC18F14K50-I/P-ND; Supplier 2: Farnell; Supplier Part Number 2: 1648501; ComponentLink1Description: Datasheet; ComponentLink1URL: http://ww1.microchip.com/downloads/en/DeviceDoc/41350C.pdf; ComponentLink2Description: Packaging Specification; ComponentLink2URL: http://www.microchip.com/stellent/groups/techpub_sg/documents/packagingspec/en012702.pdf; ComponentLink3Description: Microchip.com Home; ComponentLink3URL: http://www.microchip.com/
footprint PDIP300-P20 (DIP, 20-Leads, Row Spacing 7.62mm, Pitch 2.54mm, Body 25.9x6.6mm)
pins: 1 VDD (power), 2 RA5/OSC1/CLKIN (io), 3 RA4/AN3/OSC2/CLKOUT (io), 4 RA3/~{MCLR}/VPP (in), 5 RC5/CCP1/P1A/T0CKI (io), 6 RC4/P1B/C12OUT/SRQ (io), 7 RC3/AN7/P1C/C12IN3-/PGM (io), 8 RC6/AN8/~{SS}/T13CKI/T1OSCI (io), 9 RC7/AN9/SDO/T1OSCO (io), 10 RB7/TX/CK (io), 11 RB6/SCK/SCL (io), 12 RB5/AN11/RX/DT (io), 13 RB4/AN10/SDI/SDA (io), 14 RC2/AN6/P1D/C12IN2-/CVREF/INT2 (io), 15 RC1/AN5/C12IN1-/INT1/VREF- (io), 16 RC0/AN4/C12IN+/INT0/VREF+ (io), 17 VUSB (in), 18 RA1/D-/PGC (io), 19 RA0/D+/PGD (io), 20 VSS (power)

## PIC24FJ64GA002-X
designator U?, comment PIC24FJ64GA00-E
PIC24F; Manufacturer: Microchip; Specification: Operating Voltage Range of 2.0V to 3.6V; Manufacturer No: PIC24FJ64GA00-E
footprint SOIC28-W_MC
pins: 1 ~{MCLR}, 2 AN0/VREF+/CN2/RA0, 3 AN1/VREF-/CN3/RA1, 4 PGD1/EMUD1/AN2/C2IN-/RP0/CN4/RB0, 5 PGC1/EMUC1/AN3/C2IN+/RP1/CN5/RB1, 6 AN4/C1IN-/RP2/SDA2/CN6/RB2, 7 AN5/C1IN+/RP3/SCL2/CN7/RB3, 8 VSS, 9 OSCI/CLKI/CN30/RA2, 10 OSCO/CLKO/CN29/PMA0/RA3, 11 SOSCI/RP4/PMBE/CN1/RB4, 12 SOSCO/T1CK/CN0/PMA1/RA4, 13 VDD, 14 PGD3/EMUD3/RP5/ASDA1/CN27/PMD7/RB5, 15 PGC3/EMUC3/RP6/ASCL1/CN24/PMD6/RB6, 16 RP7/INT0/CN23/PMD5/RB7, 17 TCK/RP8/SCL1/CN22/PMD4/RB8, 18 TDO/RP9/SDA1/CN21/PMD3/RB9, 19 DISVREG, 20 VCAP/VDDCORE, 21 PGD2/EMUD2/TDI/RP10/CN16/PMD2/RB10, 22 PGC2/EMUC2/TMS/RP11/CN15/PMD1/RB11, 23 AN12/RP12/CN14/PMD0/RB12, 24 AN11/RP13/CN13/PMRD/RB13, 25 AN10/CVREF/RTCC/RP14/CN12/PMWR/RB14, 26 AN9/RP15/CN11/PMCS1/RB15, 27 VSS, 28 VDD

## PIC24FJ64GA004-X
designator U?
44-Pin General Purpose, 16-Bit Flash Microcontrollers; Manufacturer No: PIC24FJ64GA004; Manufacturer: Microchip; Specification: 44-Pin General Purpose, 16-Bit Flash Microcontrollers
footprint TQFP44_MC
pins: 1 B9, 2 C6, 3 C7, 4 C8, 5 C9, 6 DISVREG, 7 VCAP, 8 B10, 9 B11, 10 B12, 11 B13, 12 A10, 13 A7, 14 B14, 15 B15, 16 AVss, 17 AVdd, 18 ~{MCLR}, 19 A0, 20 A1, 21 B0, 22 B1, 23 B2, 24 B3, 25 C0, 26 C1, 27 C2, 28 Vdd, 29 Vss, 30 OSC1, 31 OSC0, 32 Ă, 33 B4, 34 A4, 35 A9, 36 C3, 37 C4, 38 C5, 39 Vss, 40 Vdd, 41 B5, 42 B6, 43 B7, 44 B8

## Pickit ICSP
designator P?  (value not drawn)
Pickit ICSP Connector
footprint Pickit Connector
pins: 1 ~{MCLR}, 2 VDD, 3 VSS, 4 DAT, 5 CLK, 6 LVP

## PKGS
designator U?, comment PKGS-00GXP1-R
Manufacturer: Murata; Specification: Shock Sensor; Manufacturer No: PKGS-00GXP1-R
footprint PKGS (Shock Sensor)
pins: 1, 2

## PNP Transistor
designator Q?
PNP SMD Transistor; Manufacturer No: 2SA1015LT1; Manufacturer: Toshiba; Specification: Ic -200mA
footprint SOT-23 (2N7002KT1G)
pins: 1 B, 2 E, 3 C

## Power Inductor
designator L?, comment DRQ127-x-R
Power Inductor; Manufacturer No: DRQ127-330-R; Manufacturer: Coiltronics / Eaton; Specification: 33uH, 3A
footprint Inductor (33uH/3A)
pins: 1, 2

## Power Pad
designator P?  (value not drawn)
2 pin
footprint Power Pad
pins: 1 +, 2 -

## RD
designator R?, comment 1k
Resistor DIP; Manufacturer No: RM10JTN102; Manufacturer: UniOhm; Power Rating: 1/4W; Value: 1k; Specification: ="Value" + "  "+ "Power Rating"
footprint R 1/2W
footprint R1/4WS DIP (R 1/4W, 2 Pin, 150mil)
footprint R1/4W DIP (R 1/4W, 2 Pin, 350mil)
pins: 1, 2

## Relay GV5-1
designator RL?, comment Relay 1A/12V
Relay SPDT,10A - 12VDC 5 Pin; Value: Relay SPDT, 10A, 12V
footprint Relay GV5-1
pins: 1, 2, 5, 6, 9, 10

## Relay HJR-4102-L-05V
designator RL?, comment Relay
Relay SPDT,10A - 12VDC 6 Pin; Value: Relay SPDT, 10A, 12V
footprint Relay HJR-4102-L-05V
pins: 1, 5, 6, 7, 8, 12

## RF Receiver
designator U?
RF Receiver Rolling Code
footprint RF Keyloq
pins: 1 GND, 2 D0, 3 D1, 4 D2, 5 D3, 6 VT, 7 GND, 8 VCC
text: KeeLoq

## RF Receiver Module
designator U?  (value not drawn)
footprint RF Receiver
pins: 1 VCC, 2 DATA, 3 DATA, 4 GND
text: RF Receiver

## RJ45
designator RJ?  (value not drawn)
HR911105A
footprint RJ45 (HR911105A)
pins: 1 TD+, 2 TD-, 3 RD+, 4, 5, 6 RD-, 7 NC, 8 CHS GND, 9 AG, 10 KG, 11 KY, 12 AY
text: 1CT:1CT; J8; J7; J6; J5; J4; J3; J2; J1; 1000pF; 4x75 ohms; 2KV

## RM
designator R?, comment 1k
Resistor SMD; Manufacturer No: RM10JTN102; Manufacturer: UniOhm; Power Rating: 1/8W; Value: 1k; Specification: ="Value" + "  "+ "Power Rating"
footprint R 0805
footprint R 1206
footprint R 0603
footprint R 1/10W
pins: 1, 2

## RTC
designator U?  (value not drawn)
Real-Time Clock
footprint SOIC8
pins: 1 OSCI, 2 OSCO, 3 VBack, 4 GND, 5 SDA, 6 SCL, 7 ~{IRQ}, 8 VCC

## RTC-8564 JE
designator U?, comment RTC-8564JE  (value not drawn)
REAL TIME CLOCK MODULE; Manufacturer: Epson; Specification: REAL TIME CLOCK MODULE (I2C-Bus); Manufacturer No: RTC-8564JE
footprint SOJ65P600X150-20M (SOJ, 20-Leads, Body 7.00x6.00mm, Pitch 0.65mm, IPC Low Density)
pins: 1, 2, 3 3 CLKOE, 4 4 VDD, 5 5 CLKOUT, 6 6 SCL, 7 7 SDA, 8, 9 9 GND, 10 10 ~{INT}, 11, 12, 13, 14, 15, 16, 17, 18, 19, 20

## S-5712XX
designator IC?
Hall Sensor; Manufacturer No: S-5712ACSL2-M3T1U; Manufacturer: Seiko Instruments; Specification: Hall sensor, CMOS Output, S pole
footprint SOT-23-3 (2N7002KT1G)
pins: 1 VSS, 2 VDD, 3 OUT

## SH connector 2
designator CN?, comment SM02B-SRSS-TB  (value not drawn)
2 Pin pitch 1mm; Manufacturer: JST; Specification: 1.0mm pitch/Disconnectable Crimp style connectors; Manufacturer No: SM02B-SRSS-TB
footprint SM02B-SRSS-TB
pins: 1, 2

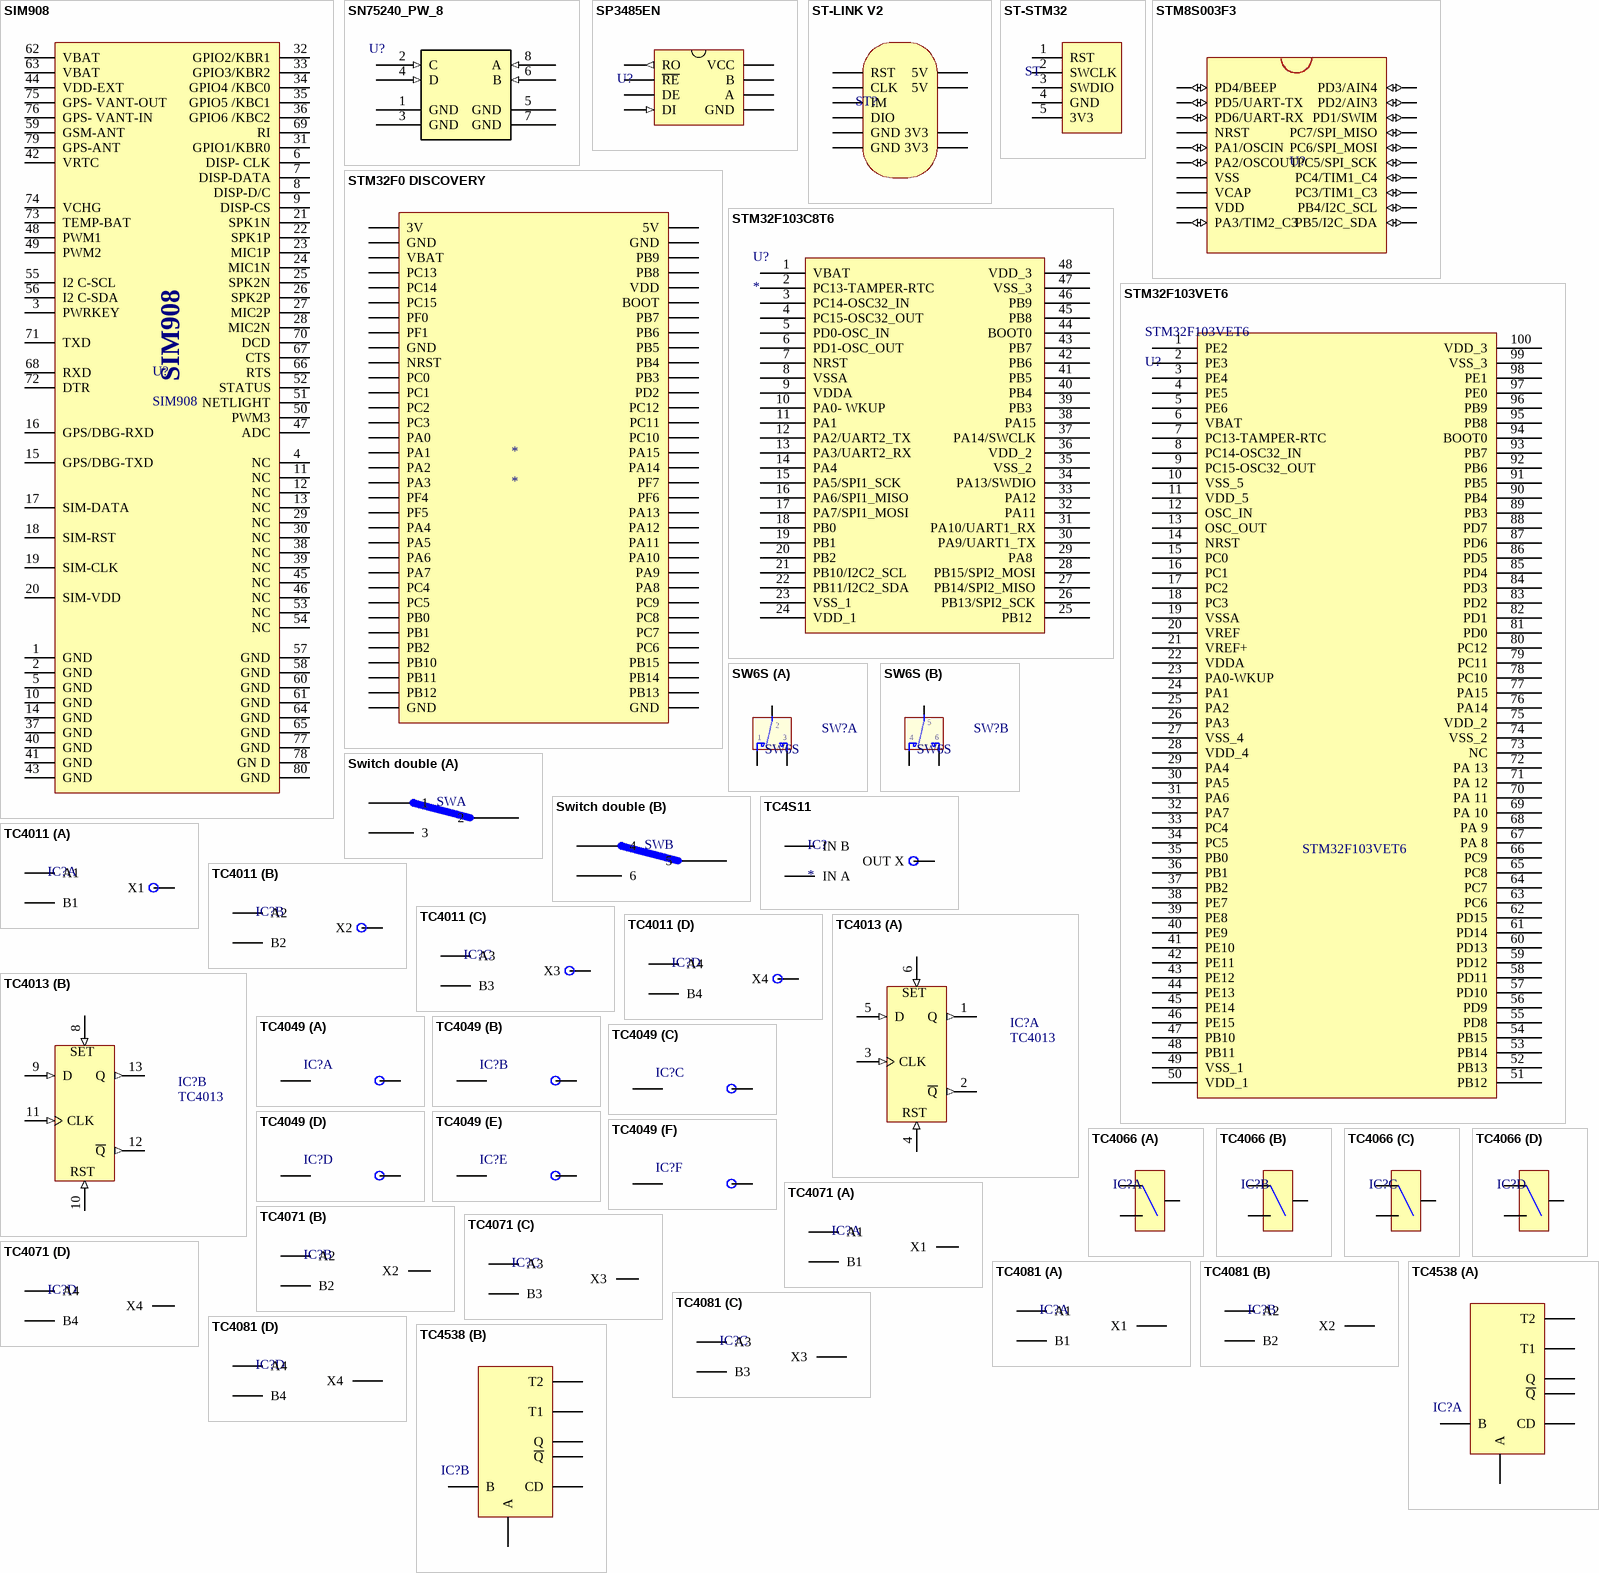
[diagram p4: symbols SIM908 to TC4538]

## SIM908
designator U?
Manufacturer: SIMCom; Specification: GSM/GPRS + GPS Module; Manufacturer No: SIM908
footprint SIM 908
pins: 1 GND, 2 GND, 3 PWRKEY, 4 NC, 5 GND, 6 DISP- CLK, 7 DISP-DATA, 8 DISP-D/C, 9 DISP-CS, 10 GND, 11 NC, 12 NC, 13 NC, 14 GND, 15 GPS/DBG-TXD, 16 GPS/DBG-RXD, 17 SIM-DATA, 18 SIM-RST, 19 SIM-CLK, 20 SIM-VDD, 21 SPK1N, 22 SPK1P, 23 MIC1P, 24 MIC1N, 25 SPK2N, 26 SPK2P, 27 MIC2P, 28 MIC2N, 29 NC, 30 NC, 31 GPIO1/KBR0, 32 GPIO2/KBR1, 33 GPIO3/KBR2, 34 GPIO4 /KBC0, 35 GPIO5 /KBC1, 36 GPIO6 /KBC2, 37 GND, 38 NC, 39 NC, 40 GND, 41 GND, 42 VRTC, 43 GND, 44 VDD-EXT, 45 NC, 46 NC, 47 ADC, 48 PWM1, 49 PWM2, 50 PWM3, 51 NETLIGHT, 52 STATUS, 53 NC, 54 NC, 55 I2 C-SCL, 56 I2 C-SDA, 57 GND, 58 GND, 59 GSM-ANT, 60 GND, 61 GND, 62 VBAT, 63 VBAT, 64 GND, 65 GND, 66 RTS, 67 CTS, 68 RXD, 69 RI (power), 70 DCD, 71 TXD, 72 DTR, 73 TEMP-BAT, 74 VCHG, 75 GPS- VANT-OUT, 76 GPS- VANT-IN, 77 GND, 78 GN D, 79 GPS-ANT, 80 GND

## SN75240_PW_8
designator U?  (value not drawn)
Manufacturer_Part_Number: sn75240_pw_8; GENERIC_PART_NUMBER: SN75240; Vendor: Texas Instruments; PACKAGE_DESIGNATOR: PW; PIN_COUNT: 8; FAMILY_NAME: ESD Solution; INDUSTRY_STD_PKG_TYPE: TSSOP; Datasheet URL: http://www.ti.com/lit/gpn/SN75240; Manufacturer: Texas Instruments; RefDes: RefDes; Type: DEV; Value: Value
footprint PW8
pins: 1 GND (power), 2 C (in), 3 GND (power), 4 D (in), 5 GND (power), 6 B (in), 7 GND (power), 8 A (in)

## SP3485EN
designator U?  (value not drawn)
Half-Duplex RS-485 Transceiver; Manufacturer No: SP3485EN; Manufacturer: Exar; Specifications: 3.3V Low power,10Mbps data rate
footprint SOIC8
pins: 1 RO (out), 2 ~{RE}, 3 DE, 4 DI (in), 5 GND (power), 6 A, 7 B, 8 VCC (power)

## ST-LINK V2
designator ST?  (value not drawn)
footprint IDC 10pin Pitch 2.54
footprint IDC 10pin Pitch 2.54 Angle
pins: 1 RST, 2 CLK, 3 IM, 4 DIO, 5 GND, 6 GND, 7 3V3, 8 3V3, 9 5V, 10 5V

## ST-STM32
designator ST  (value not drawn)
pins: 1 RST, 2 SWCLK, 3 SWDIO, 4 GND, 5 3V3

## STM8S003F3
designator U?  (value not drawn)
Manufacturer: ST; Manufacturer No: STM8S003F3; Specification: Value line, 16 MHz STM8S 8-bit MCU,8 Kbyte Flash, 128 byte data
footprint TSOP65P640X120-20N (TSOP, 20-Leads, Body 6.50x4.40mm, Pitch 0.65mm, IPC Medium Density)
pins: 1 PD4/BEEP (io), 2 PD5/UART-TX (io), 3 PD6/UART-RX (io), 4 NRST, 5 PA1/OSCIN (io), 6 PA2/OSCOUT (io), 7 VSS (power), 8 VCAP (power), 9 VDD (power), 10 PA3/TIM2_C3 (io), 11 PB5/I2C_SDA (io), 12 PB4/I2C_SCL (io), 13 PC3/TIM1_C3 (io), 14 PC4/TIM1_C4 (io), 15 PC5/SPI_SCK (io), 16 PC6/SPI_MOSI (io), 17 PC7/SPI_MISO (io), 18 PD1/SWIM (io), 19 PD2/AIN3 (io), 20 PD3/AIN4 (io)

## STM32F0 DISCOVERY
designator *
footprint STM32F0 DISCOVERY BOARD
pins: 1 3V, 2 GND, 3 VBAT, 4 PC13, 5 PC14, 6 PC15, 7 PF0, 8 PF1, 9 GND, 10 NRST, 11 PC0, 12 PC1, 13 PC2, 14 PC3, 15 PA0, 16 PA1, 17 PA2, 18 PA3, 19 PF4, 20 PF5, 21 PA4, 22 PA5, 23 PA6, 24 PA7, 25 PC4, 26 PC5, 27 PB0, 28 PB1, 29 PB2, 30 PB10, 31 PB11, 32 PB12, 33 GND, 34 GND, 35 PB13, 36 PB14, 37 PB15, 38 PC6, 39 PC7, 40 PC8, 41 PC9, 42 PA8, 43 PA9, 44 PA10, 45 PA11, 46 PA12, 47 PA13, 48 PF6, 49 PF7, 50 PA14, 51 PA15, 52 PC10, 53 PC11, 54 PC12, 55 PD2, 56 PB3, 57 PB4, 58 PB5, 59 PB6, 60 PB7, 61 BOOT, 62 VDD, 63 PB8, 64 PB9, 65 GND, 66 5V

## STM32F103C8T6
designator U?
Manufacturer No: STM32F103C8T6; Manufacturer: ST; Specification: ARM Cortex-M3 MCU with 64 Kbytes Flash, 72 MHz CPU, motor control, USB and CAN
footprint LQFP 48pin
pins: 1 VBAT, 2 PC13-TAMPER-RTC, 3 PC14-OSC32_IN, 4 PC15-OSC32_OUT, 5 PD0-OSC_IN, 6 PD1-OSC_OUT, 7 NRST, 8 VSSA, 9 VDDA, 10 PA0- WKUP, 11 PA1, 12 PA2/UART2_TX, 13 PA3/UART2_RX, 14 PA4, 15 PA5/SPI1_SCK, 16 PA6/SPI1_MISO, 17 PA7/SPI1_MOSI, 18 PB0, 19 PB1, 20 PB2, 21 PB10/I2C2_SCL, 22 PB11/I2C2_SDA, 23 VSS_1, 24 VDD_1, 25 PB12 , 26 PB13/SPI2_SCK, 27 PB14/SPI2_MISO, 28 PB15/SPI2_MOSI, 29 PA8 , 30 PA9/UART1_TX, 31 PA10/UART1_RX, 32 PA11, 33 PA12, 34 PA13/SWDIO, 35 VSS_2 , 36 VDD_2 , 37 PA14/SWCLK, 38 PA15, 39 PB3 , 40 PB4 , 41 PB5 , 42 PB6 , 43 PB7 , 44 BOOT0 , 45 PB8 , 46 PB9 , 47 VSS_3 , 48 VDD_3 

## STM32F103VET6
designator STM32F103VET6, comment U?
100 Pin
footprint STM32F103VET61 100Pin (STM32F103VET6\)
pins: 1 PE2, 2 PE3, 3 PE4, 4 PE5, 5 PE6, 6 VBAT, 7 PC13-TAMPER-RTC, 8 PC14-OSC32_IN, 9 PC15-OSC32_OUT, 10 VSS_5, 11 VDD_5, 12 OSC_IN, 13 OSC_OUT, 14 NRST, 15 PC0, 16 PC1, 17 PC2, 18 PC3, 19 VSSA, 20 VREF, 21 VREF+, 22 VDDA, 23 PA0-WKUP, 24 PA1, 25 PA2, 26 PA3, 27 VSS_4, 28 VDD_4, 29 PA4, 30 PA5, 31 PA6, 32 PA7, 33 PC4, 34 PC5, 35 PB0, 36 PB1, 37 PB2, 38 PE7, 39 PE8, 40 PE9, 41 PE10, 42 PE11, 43 PE12, 44 PE13, 45 PE14, 46 PE15, 47 PB10, 48 PB11, 49 VSS_1, 50 VDD_1, 51 PB12, 52 PB13, 53 PB14, 54 PB15, 55 PD8, 56 PD9, 57 PD10, 58 PD11, 59 PD12, 60 PD13, 61 PD14, 62 PD15, 63 PC6, 64 PC7, 65 PC8, 66 PC9, 67 PA 8, 68 PA 9, 69 PA 10, 70 PA 11, 71 PA 12, 72 PA 13, 73 NC, 74 VSS_2, 75 VDD_2, 76 PA14, 77 PA15, 78 PC10, 79 PC11, 80 PC12, 81 PD0, 82 PD1, 83 PD2, 84 PD3, 85 PD4, 86 PD5, 87 PD6, 88 PD7, 89 PB3, 90 PB4, 91 PB5, 92 PB6, 93 PB7, 94 BOOT0, 95 PB8, 96 PB9, 97 PE0, 98 PE1, 99 VSS_3, 100 VDD_3

## SW6S
designator SW?
SW-DTDP - 6 Pin; Value: SW6
footprint SW6 (SW DTDP - 6Pin 260x300x300 mil)
part A pins: 1, 2, 3
part B pins: 4, 5, 6

## Switch double
designator SW  (value not drawn)
Switch double row; Pitch: 200mil
footprint SWITCH DOUBLE (Pitch 200mil)
part A pins: 1, 2, 3
part B pins: 4, 5, 6

## TC4S11
designator IC?
2 Input NAND Gate; Manufacturer No: TC4S11F; Manufacturer: Toshiba; Specification: CMOS 3-18V
footprint SSOP5-P-0.95
pins: 1 IN B, 2 IN A, 3 VSS (power) hidden to VSS, 4 OUT X, 5 VDD (power) hidden to VDD

## TC4011
designator IC?  (value not drawn)
Quad 2-Input NAND Gate; Manufacturer No: TC4011BF; Manufacturer: Toshiba; Specification: CMOS 3-18V
footprint SOP14-P-300-1.27
part A pins: 1 A1, 2 B1, 3 X1, 7 VSS (power) hidden to VSS, 14 VDD (power) hidden to VDD
part B pins: 4 X2, 5 B2, 6 A2
part C pins: 8 A3, 9 B3, 10 X3
part D pins: 11 X4, 12 B4, 13 A4

## TC4013
designator IC?
Dual D-Type Flip-Flop; Manufacturer No: TC4013BF; Manufacturer: Toshiba; Specification: CMOS 3-18V
footprint SOP14-P-300-1.27
pins on every part: 7 VSS (power) hidden to VSS, 14 VDD (power) hidden to VDD
part A pins: 1 Q (out), 2 ~{Q} (out), 3 CLK (in), 4 RST (in), 5 D (in), 6 S (in)
part B pins: 8 S (in), 9 D (in), 10 RST (in), 11 CLK (in), 12 ~{Q} (out), 13 Q (out)
part A text: SET
part B text: SET

## TC4049
designator IC?  (value not drawn)
Hex Buffer/Converter (inverting type); Manufacturer No: TC4049BF; Manufacturer: Toshiba; Specification: CMOS 3-18V
footprint SOP16-P-300-1.27
part A pins: 1 VDD (power) hidden to VDD, 2 O1, 3 I1, 8 VSS (power) hidden to VSS, 13 NC hidden
part B pins: 4 O2, 5 I2
part C pins: 6 O3, 7 I3
part D pins: 9 I4, 10 O4
part E pins: 11 I5, 12 O5
part F pins: 14 I6, 15 O6

## TC4066
designator IC?  (value not drawn)
Quad Bilateral Switch; Manufacturer: Toshiba; Manufacturer No: TC4066BF; Specification: CMOS 3-18V
footprint SOP14-P-300-1.27
part A pins: 1 A1, 2 B1, 7 VSS (power) hidden to VSS, 13 X1, 14 VDD (power) hidden to VDD
part B pins: 3 A2, 4 B2, 5 X2
part C pins: 6 X3, 8 B3, 9 A3
part D pins: 10 B4, 11 A4, 12 X4

## TC4071
designator IC?  (value not drawn)
Quad 2-Input OR Gate; Manufacturer No: TC4071BF; Manufacturer: Toshiba; Specification: CMOS 3-18V
footprint SOP14-P-300-1.27
part A pins: 1 A1, 2 B1, 3 X1, 7 VSS (power) hidden to VSS, 14 VDD (power) hidden to VDD
part B pins: 4 X2, 5 B2, 6 A2
part C pins: 8 A3, 9 B3, 10 X3
part D pins: 11 X4, 12 B4, 13 A4

## TC4081
designator IC?  (value not drawn)
Quad 2-Input AND Gate; Manufacturer No: TC4081BF; Manufacturer: Toshiba; Specification: CMOS 3-18V
footprint SOP14-P-300-1.27
part A pins: 1 A1, 2 B1, 3 X1, 7 VSS (power) hidden to VSS, 14 VDD (power) hidden to VDD
part B pins: 4 X2, 5 B2, 6 A2
part C pins: 8 A3, 9 B3, 10 X3
part D pins: 11 X4, 12 B4, 13 A4

## TC4538
designator IC?  (value not drawn)
Retriggerable/Resettable Monostable Multivibrator; Manufacturer No: TC4538BF; Manufacturer: Toshiba; Specification: CMOS 3-18V
footprint SOP16-P-300-1.27
part A pins: 1 T1, 2 T2, 3 CD, 4 A, 5 B, 6 Q, 7 ~{Q}, 8 VSS (power) hidden to VSS, 16 VDD (power) hidden to VDD
part B pins: 9 ~{Q}, 10 Q, 11 B, 12 A, 13 CD, 14 T2, 15 T1

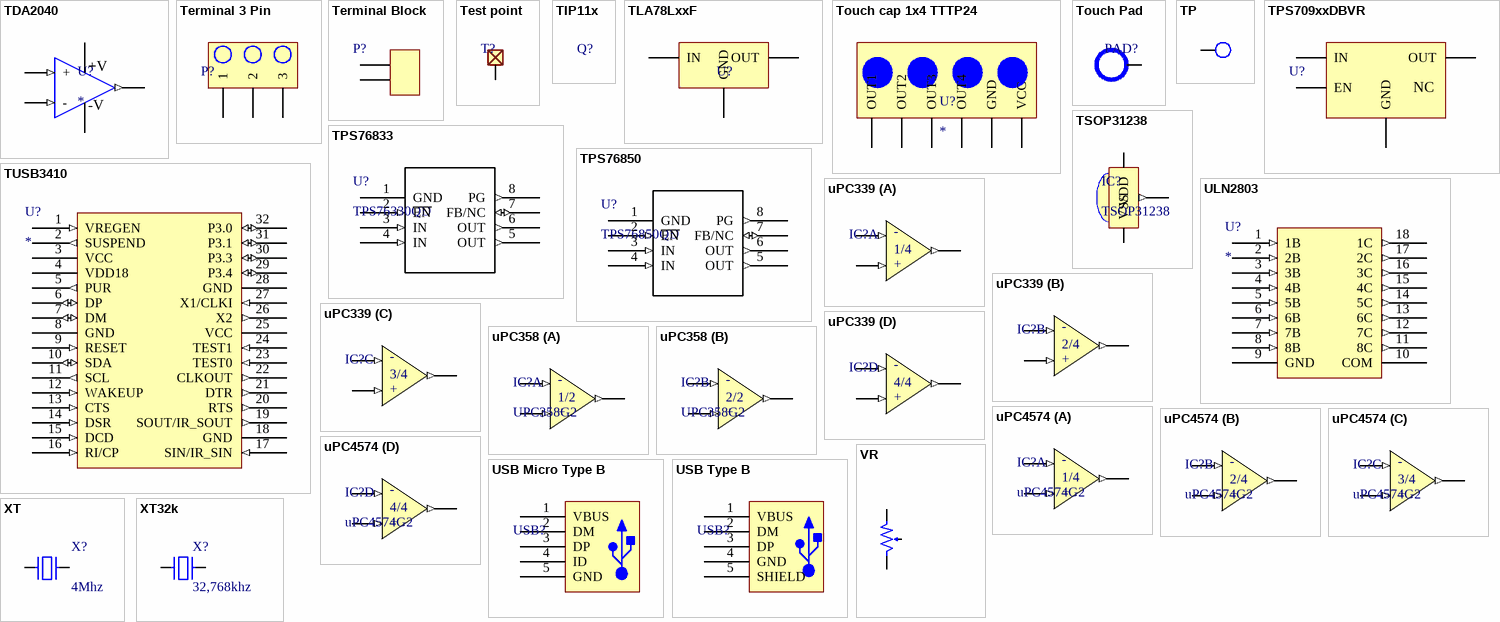
[diagram p5: symbols TDA2040 to XT32k]

## TDA2040
designator U?
footprint PENTAWATT
pins: 1 + (in), 2 - (in), 3 V- (power), 4 (out), 5 V+ (power)
text: +V; -V

## Terminal 3 Pin
designator P?  (value not drawn)
footprint Terminal 3 Pin (SCREW TERMINAL BLOCK 5MM PITCH)
pins: 1, 2, 3

## Terminal Block
designator P?  (value not drawn)
footprint Terminal Block (3.5 mm)
footprint Power Terminal
pins: 1, 2

## Test point
designator T?  (value not drawn)
footprint D8-M
pins: 1

## TIP11x
designator Q?  (value not drawn)
DARLINGTON TRANSISTORS

## TLA78LxxF
designator U?, comment TLA78L05F  (value not drawn)
Regulator Voltage; Manufacturer: Toshiba; Specification: Input max 35V, output 5V, 150mA; Manufacturer No: TLA78L05F
footprint HSOP3-P-1.50 (SOT89, 3-Leads, Body 4.60x2.50mm, Pitch 1.50mm, Lead Span 4.1mm, IPC Medium Density)
pins: 1 OUT, 2 GND, 3 IN

## Touch cap 1x4 TTTP24
designator U?
Manufacturer No: TTTP24 Module; Manufacturer: China; Specification: 4 channel, 2V4 - 5V5
footprint HDR1X6 (Connector; Header; 6 Position)
pins: 1 OUT1, 2 OUT2, 3 OUT3, 4 OUT4, 5 GND, 6 VCC

## Touch Pad
designator PAD?  (value not drawn)
footprint PAD
pins: 1

## TP
designator TP?  (value not drawn)
footprint TP
pins: 1

## TPS709xxDBVR
designator U?, comment TPS70933DBVR  (value not drawn)
Voltage Regulators; Manufacturer: Texas Instruments; Specification: Input 2.7-30V, Output 3.3V, 150mA; Manufacturer No: TPS70933DBVR
footprint SOT-23-5 (SOT23, 5-Leads, Body 2.90x2.80mm, Pitch 0.95mm, IPC Medium Density)
pins: 1 IN (power), 2 GND (power), 3 EN (power), 4 NC hidden, 5 OUT (power)

## TPS76833
designator U?, comment TPS76330QD
Single Output LDO, 1.0A, Fixed(5.0V), Low Quiescent Current, Fast Transient Response; GENERIC_PART_NUMBER: TPS76833; Vendor: Texas Instruments; PACKAGE_DESIGNATOR: D; PIN_COUNT: 8; FAMILY_NAME: SINGLE CHANNEL LDO; INDUSTRY_STD_PKG_TYPE: SOIC; Manufacturer No: TPS76330QD; Datasheet URL: http://www.ti.com/lit/gpn/TPS76833; Manufacturer: Texas Instruments; RefDes: RefDes; Type: DEV; Value: Value
footprint D8
pins: 1 GND (power), 2 ~{EN} (in), 3 IN (in), 4 IN (in), 5 OUT (out), 6 OUT (out), 7 FB/NC (io), 8 PG (out)

## TPS76850
designator U?, comment TPS76850QD
Single Output LDO, 1.0A, Fixed(5.0V), Low Quiescent Current, Fast Transient Response; Vendor: Texas Instruments; PACKAGE_DESIGNATOR: D; PIN_COUNT: 8; FAMILY_NAME: SINGLE CHANNEL LDO; INDUSTRY_STD_PKG_TYPE: SOIC; Manufacturer No: TPS76850QD; GENERIC_PART_NUMBER: TPS76850; Datasheet URL: http://www.ti.com/lit/gpn/TPS76850; Manufacturer: Texas Instruments; RefDes: RefDes; Type: DEV; Value: Value
footprint D8
pins: 1 GND (power), 2 ~{EN} (in), 3 IN (in), 4 IN (in), 5 OUT (out), 6 OUT (out), 7 FB/NC (io), 8 PG (out)

## TSOP31238
designator IC?
IR Receiver; Manufacturer: Vishay Semiconductors; Specification: Carrier frequency 38 kHz; Manufacturer No: TSOP31238
footprint TSOP31XX Lie
pins: 1 VSS (power), 2 VDD (power), 3 OUT (out)